# Altium schematic symbol library bethu.SchLib: 608 symbols (part 1 of 6)
Pins are listed as number, name and electrical type; pins without a type are passive.

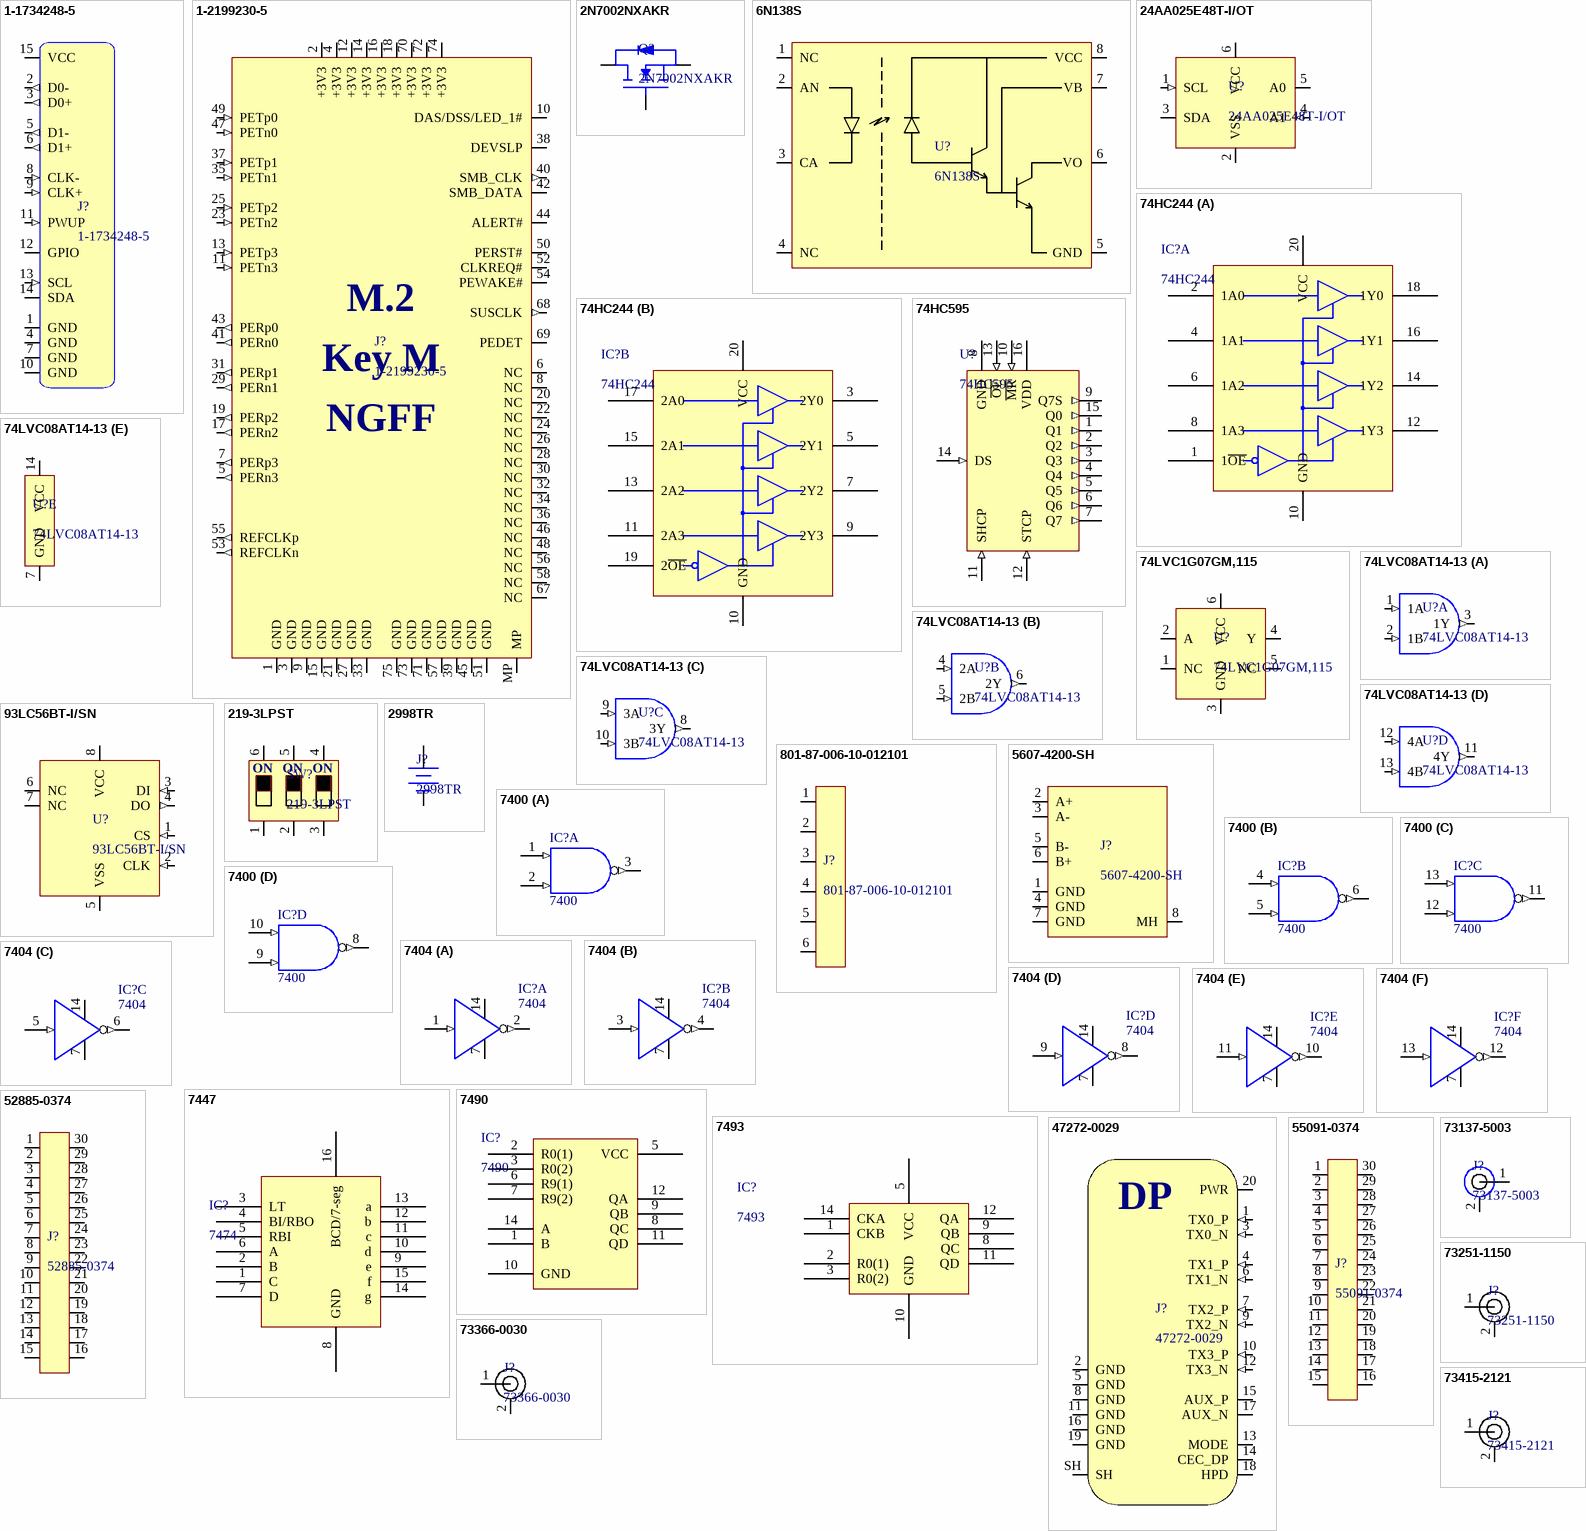
[diagram p0: symbols 1-1734248-5 to 73415-2121]

## 1-1734248-5
designator J?
FFC & FPC Connectors 15P 1.0 FPC, Zip V/T SMT; Manufacturer: TE Connectivity; Manufacturer Part Number: 1-1734248-5; Distributor Link: https://www.mouser.de/ProductDetail/TE-Connectivity/1-1734248-5?qs=sGAEpiMZZMvlX3nhDDO4AGJoiHpVI%252BrLj36UQiWnLiQ%3D; LCSC: C2922285
footprint 1-1734248-5
pins: 1 GND (power), 2 D0- (out), 3 D0+ (out), 4 GND (power), 5 D1- (out), 6 D1+ (out), 7 GND (power), 8 CLK- (in), 9 CLK+ (in), 10 GND (power), 11 PWUP (in), 12 GPIO (io), 13 SCL (in), 14 SDA (io), 15 VCC (power)

## 1-2199230-5
designator J?  (no BOM)
M.2 NGFF Key M Card Edge Connector 0.5mm Pitch 67 Position 4.2mm Height; Manufacturer: TE Connectivity; Manufacturer Part Number: 1-2199230-5; Distributor Link: https://eu.mouser.com/ProductDetail/TE-Connectivity/1-2199230-5?qs=N0TJGnUfxCD5L9UvFjPEwQ%3D%3D; LCSC: C590854
footprint 1-2199230-5
pins: 1 GND (power), 2 +3V3 (power), 3 GND (power), 4 +3V3 (power), 5 PERn3 (out), 6 NC, 7 PERp3 (out), 8 NC, 9 GND (power), 10 DAS/DSS/LED_1#, 11 PETn3 (in), 12 +3V3 (power), 13 PETp3 (in), 14 +3V3 (power), 15 GND (power), 16 +3V3 (power), 17 PERn2 (out), 18 +3V3 (power), 19 PERp2 (out), 20 NC, 21 GND (power), 22 NC, 23 PETn2 (in), 24 NC, 25 PETp2 (in), 26 NC, 27 GND (power), 28 NC, 29 PERn1 (out), 30 NC, 31 PERp1 (out), 32 NC, 33 GND (power), 34 NC, 35 PETn1 (in), 36 NC, 37 PETp1 (in), 38 DEVSLP, 39 GND (power), 40 SMB_CLK (out), 41 PERn0 (out), 42 SMB_DATA (io), 43 PERp0 (out), 44 ALERT#, 45 GND (power), 46 NC, 47 PETn0 (in), 48 NC, 49 PETp0 (in), 50 PERST#, 51 GND (power), 52 CLKREQ#, 53 REFCLKn (out), 54 PEWAKE#, 55 REFCLKp (out), 56 NC, 57 GND (power), 58 NC, 67 NC, 68 SUSCLK (out), 69 PEDET, 70 +3V3 (power), 71 GND (power), 72 +3V3 (power), 73 GND (power), 74 +3V3 (power), 75 GND (power), MP (power)
text: M.2; Key M; NGFF

## 2N7002NXAKR
designator Q?
MOSFET N-Channel Vds=60V Id=300mA with ESD Protection; Manufacturer: Nexperia; Manufacturer Part Number: 2N7002NXAKR
footprint SSM3J338R,LF-SOT23-F
pins: D, G, S

## 6N138S
designator U?
Single-Channel, High-Speed Optocoupler; Manufacturer: Lite-On; Manufacturer Part Number: 6N138S; Distributor Link: https://www.mouser.de/ProductDetail/Lite-On/6N138S?qs=PByDJ0nQNwpiJNZ8Mk8Kdw%3D%3D
footprint SMD-8
pins: 1 NC, 2 AN, 3 CA, 4 NC, 5 GND (power), 6 VO (oc), 7 VB (power), 8 VCC (power)

## 24AA025E48T-I/OT
designator U?
2-Kbit I2C Serial EEPROMs with EUI-48™ Node Identity; Manufacturer: Microchip; Manufacturer Part Number: 24AA025E48T-I/OT; Distributor Link: https://www.mouser.de/ProductDetail/Microchip-Technology/24AA025E48T-I-OT?qs=GCDK0xhvQh4RRiPFFnzHdA%3D%3D; LCSC: C129895
footprint SOT-23-6
pins: 1 SCL (in), 2 VSS (power), 3 SDA (io), 4 A1 (in), 5 A0 (power), 6 VCC (power)

## 74HC244
designator IC?
footprint TSSOP 20PIN (TSOP, 20-Leads, Body 6.6x4.5mm (max), Pitch 0.65mm, IPC High Density)
part A pins: 1 1~{OE}, 2 1A0, 4 1A1, 6 1A2, 8 1A3, 10 GND, 12 1Y3, 14 1Y2, 16 1Y1, 18 1Y0, 20 VCC
part B pins: 3 2Y0, 5 2Y1, 7 2Y2, 9 2Y3, 10 GND, 11 2A3, 13 2A2, 15 2A1, 17 2A0, 19 2~{OE}, 20 VCC

## 74HC595
designator U?
footprint SOIC 16PIN
pins: 1 Q1 (out), 2 Q2 (out), 3 Q3 (out), 4 Q4 (out), 5 Q5 (out), 6 Q6 (out), 7 Q7 (out), 8 GND (power), 9 Q7S (out), 10 ~{MR} (in), 11 SHCP (in), 12 STCP (in), 13 ~{OE} (in), 14 DS (in), 15 Q0 (out), 16 VDD (power)

## 74LVC1G07GM,115
designator U?
Open-Drain Buffer 3.3V/5V Non-Inverting XSON-6; Manufacturer: Nexperia; Manufacturer Part Number: 74LVC1G07GM,115
footprint XSON-6-SOT1202 (SON, 6-Leads, Body 0.98x1.00mm, Pitch 0.35mm, IPC Medium Density)
pins: 1 NC, 2 A, 3 GND, 4 Y, 5 NC, 6 VCC

## 74LVC08AT14-13
designator U?
QUADRUPLE 2-INPUT CMOS AND GATES; Manufacturer: Diodes Incorporated; Manufacturer Part Number: 74LVC08AT14-13; Distributor Link: https://eu.mouser.com/ProductDetail/Diodes-Incorporated/74LVC08AT14-13?qs=ZtY9WdtwX5535dJGuTpaIA%3D%3D
footprint TSSOP-14
part A pins: 1 1A (in), 2 1B (in), 3 1Y (out)
part B pins: 4 2A (in), 5 2B (in), 6 2Y (out)
part C pins: 8 3Y (out), 9 3A (in), 10 3B (in)
part D pins: 11 4Y (out), 12 4A (in), 13 4B (in)
part E pins: 7 GND (power), 14 VCC (power)

## 93LC56BT-I/SN
designator U?
2K Microwire Compatible Serial EEPROM; Manufacturer: Microchip; Manufacturer Part Number: 93LC56BT-I/SN; Distributor Link: https://www.mouser.de/ProductDetail/Microchip-Technology/93LC56BT-I-SN?qs=lQv0JY93vreW%252BBssv4v8RA%3D%3D; LCSC: C6164
footprint SOIC-8 (SOIC, 8-Leads, Body 4.91x3.90mm, Pitch 1.27mm, IPC Medium Density)
pins: 1 CS (in), 2 CLK (in), 3 DI (in), 4 DO (out), 5 VSS (power), 6 NC, 7 NC, 8 VCC (power)

## 219-3LPST
designator SW?
DIP Switches SPST 3x; Manufacturer: CTS; Manufacturer Part Number: 219-3LPST
footprint 219-3LPST
pins: 1, 2, 3, 4, 5, 6
text: ON

## 801-87-006-10-012101
designator J?
Pin Socket 6 Position 2.54mm Pitch; Manufacturer: preci-dip; Manufacturer Part Number: 801-87-006-10-012101
footprint 801-87-006-10-012101
pins: 1, 2, 3, 4, 5, 6

## 2998TR
designator J?
Coin Cell Battery Holder 6.8mm; Manufacturer: Keystone Electronics; Manufacturer Part Number: 2998TR
footprint 2998TR (6.8mm Coin Cell Holder SMD)
pins: A, K

## 5607-4200-SH
designator J?
SATA Connector 7-Position 1.27mm Pitch Male Right Angle SMD; Manufacturer: 3M; Manufacturer Part Number: 5607-4200-SH
footprint 5607-4200-SH
pins: 1 GND, 2 A+, 3 A-, 4 GND, 5 B-, 6 B+, 7 GND, 8 MH

## 7400
designator IC?
Value: DIP14/W0.3; Value: 7400; Copyright by: VanDungEvn@Gmail.com
footprint SOIC 14PIN (SOIC, 14-Leads, Body 8.8x4.0mm (max), Pitch 1.27mm, IPC Medium Density)
pins on every part: 7 GND (power) hidden to GND, 14 VCC (power) hidden to VCC
part A pins: 1 A (in), 2 B (in), 3 ~{O} (out)
part B pins: 4 A (in), 5 B (in), 6 ~{O} (out)
part C pins: 11 ~{O} (out), 12 B (in), 13 A (in)
part D pins: 8 ~{O} (out), 9 B (in), 10 A (in)

## 7404
designator IC?
Text Field1: 30; Text Field2: 40
footprint SOIC 14PIN (SOIC, 14-Leads, Body 8.8x4.0mm (max), Pitch 1.27mm, IPC Medium Density)
pins on every part: 7 GND (power), 14 VCC (power)
part A pins: 1 A (in), 2 Y (out)
part B pins: 3 A (in), 4 Y (out)
part C pins: 5 A (in), 6 Y (out)
part D pins: 8 Y (out), 9 A (in)
part E pins: 10 Y (out), 11 A (in)
part F pins: 12 Y (out), 13 A (in)

## 7447
designator IC?, comment 7474
footprint DIP16 (16 PIN, W 300mil, Pin to pin 100mil)
pins: 1 C, 2 B, 3 LT, 4 BI/RBO, 5 RBI, 6 A, 7 D, 8 GND, 9 e, 10 d, 11 c, 12 b, 13 a, 14 g, 15 f, 16 BCD/7-seg

## 7490
designator IC?
footprint DIP14 (W.300/L.900)
pins: 1 B, 2 R0(1), 3 R0(2), 5 VCC, 6 R9(1), 7 R9(2), 8 QC, 9 QB, 10 GND, 11 QD, 12 QA, 14 A

## 7493
designator IC?
footprint DIP14 (W.300/L.900)
pins: 1 CKB, 2 R0(1), 3 R0(2), 5 VCC, 8 QC, 9 QB, 10 GND, 11 QD, 12 QA, 14 CKA

## 47272-0029
designator J?
DisplayPort Male Receptacle, Right-Angle, Surface Mount, 0.76µm Gold (Au) Plating, 20 Circuits, 0.50mm Pitch, without Cover, Lead-Free; Manufacturer: Molex; Manufacturer Part Number: 47272-0029; Distributor Link: https://eu.mouser.com/ProductDetail/Molex/47272-0029?qs=R8Vl3J6srxyrbHtT7SkUeQ%3D%3D
footprint 47272-0029
pins: 1 TX0_P (in), 2 GND (power), 3 TX0_N (in), 4 TX1_P (in), 5 GND (power), 6 TX1_N (in), 7 TX2_P (in), 8 GND (power), 9 TX2_N (in), 10 TX3_P (in), 11 GND (power), 12 TX3_N (in), 13 MODE, 14 CEC_DP, 15 AUX_P (io), 16 GND (power), 17 AUX_N (io), 18 HPD, 19 GND (power), 20 PWR (power), SH
text: DP

## 52885-0374
designator J?
SlimStack Board-to-Board Connector, 0.635mm Pitch, 0.635 Series, Receptacle, 6.00 to 10.00mm Mated Height, 6.40mm Mated Width, 30 Circuits; Manufacturer: Molex; Manufacturer Part Number: 52885-0374
footprint 52885-0374
pins: 1, 2, 3, 4, 5, 6, 7, 8, 9, 10, 11, 12, 13, 14, 15, 16, 17, 18, 19, 20, 21, 22, 23, 24, 25, 26, 27, 28, 29, 30

## 55091-0374
designator J?
SlimStack Board-to-Board Connector, 0.635mm Pitch, 0.635 Series, Plug, 6.00 or 12.00mm Mated Height, 6.40mm Mated Width, 30 Circuits; Manufacturer: Molex; Manufacturer Part Number: 55091-0374
footprint 55091-0374
pins: 1, 2, 3, 4, 5, 6, 7, 8, 9, 10, 11, 12, 13, 14, 15, 16, 17, 18, 19, 20, 21, 22, 23, 24, 25, 26, 27, 28, 29, 30

## 73137-5003
designator J?
BNC 50 Ohm, Right-Angle PCB Bulkhead Jack Receptacle, Panel Isolated, Black PBT Housing, Housing Height 13.20mm; Manufacturer: Molex; Manufacturer Part Number: 73137-5003
footprint 73137-5003
pins: 1, 2

## 73251-1150
designator J?
RF Connector 50 Ohms, SMA Jack Receptacle, Edge Mount, .25µm Gold (Au) Plating; Manufacturer: Molex; Manufacturer Part Number: 73251-1150
footprint 73251-1150
pins: 1, 2

## 73366-0030
designator J?
50 Ohms, MCX PCB Jack Receptacle, Right-Angle, 80; Manufacturer: Molex; Manufacturer Part Number: 73366-0030
footprint 73366-0030
pins: 1, 2

## 73415-2121
designator J?
RF Connector 50 Ohms, MMCX Vertical Plug, PCB, Plating Per Commercial Requirements, Bulk; Manufacturer: Molex; Manufacturer Part Number: 73415-2121
footprint 73415-2121
pins: 1, 2

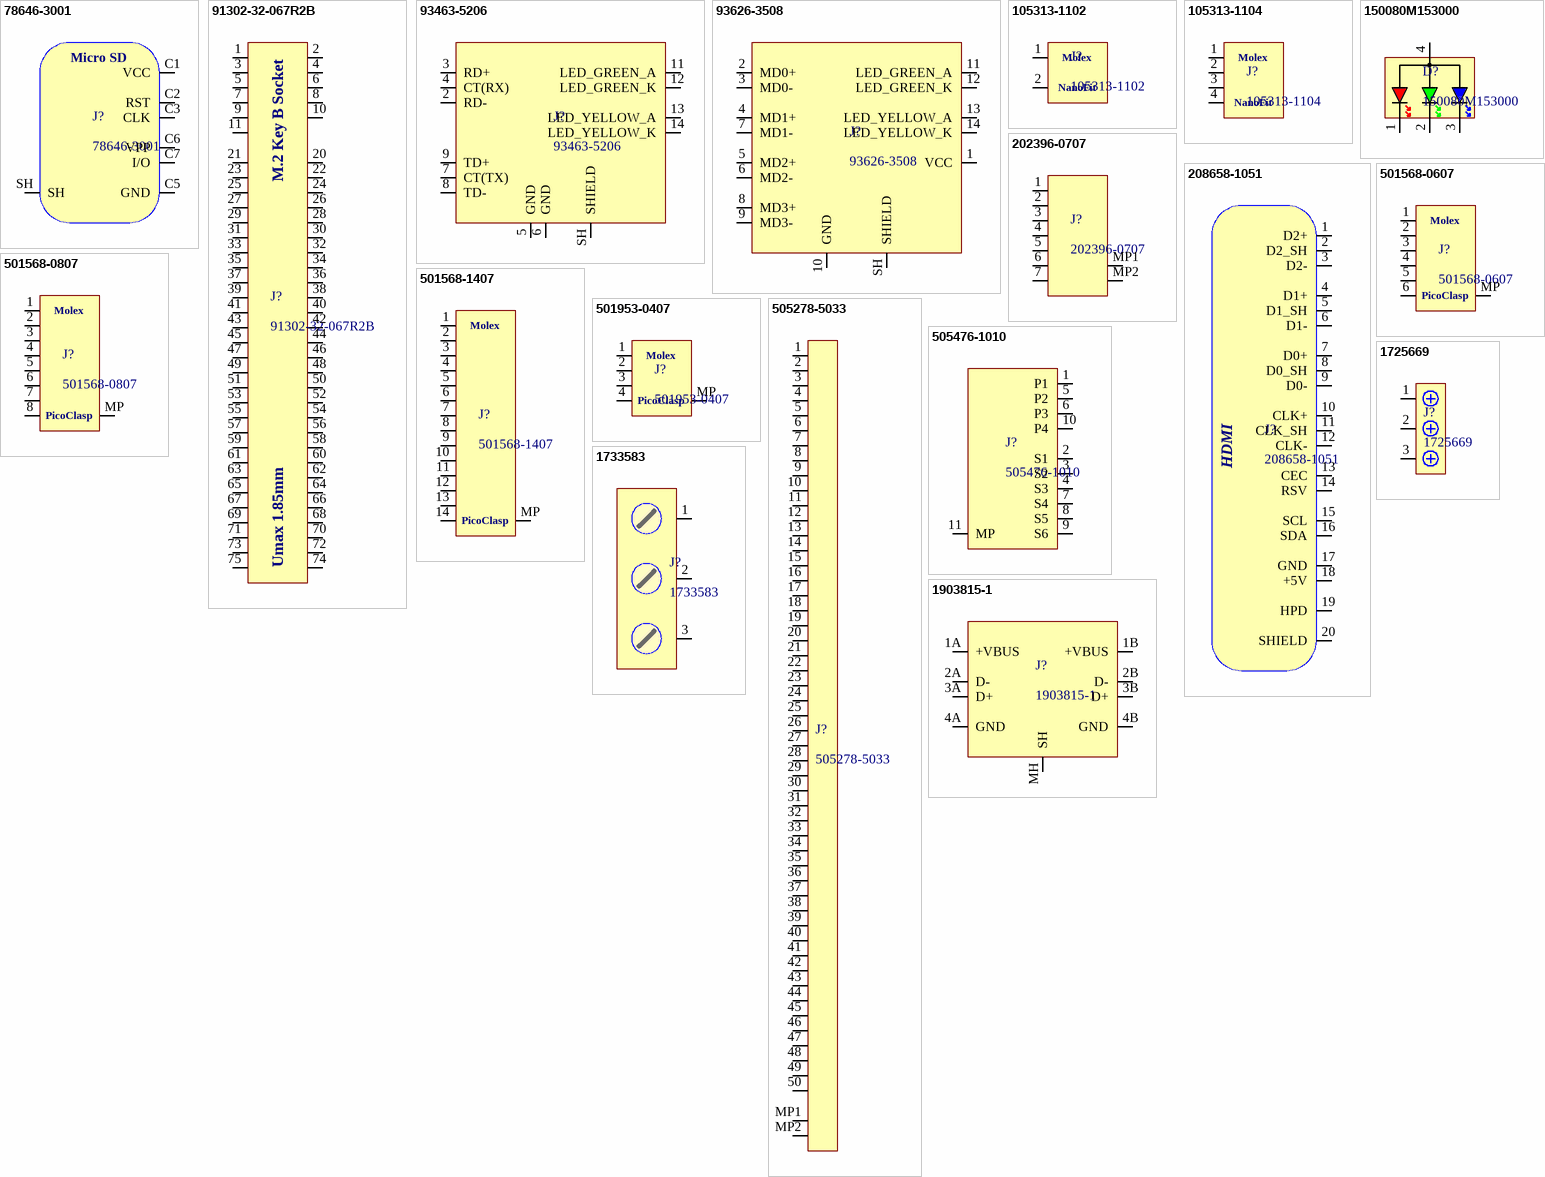
[diagram p1: symbols 78646-3001 to 1903815-1]

## 78646-3001
designator J?
micro-SIM Card Socket without Detect Switch, 1.45mm Height, Push-Pull Eject, Surface Mount, 6 Circuits, Low-Halogen, Lead-Free; Manufacturer: Molex; Manufacturer Part Number: 78646-3001
footprint 78646-3001
pins: C1 VCC, C2 RST, C3 CLK, C5 GND, C6 VPP, C7 I/O, SH
text: Micro SD

## 91302-32-067R2B
designator J?
M.2 Key B Card Edge Connector 67 Position 0.5mm Pitch 1.85mm Card Height; Manufacturer: Umax; Manufacturer Part Number: 91302-32-067R2B; Distributor Link: https://www.lcsc.com/product-detail/Card-Edge-Connectors_UMAX-91302-32-067R2B_C1509731.html; LCSC: C1509731
footprint 91302-32-067R2B
pins: 1, 2, 3, 4, 5, 6, 7, 8, 9, 10, 11, 20, 21, 22, 23, 24, 25, 26, 27, 28, 29, 30, 31, 32, 33, 34, 35, 36, 37, 38, 39, 40, 41, 42, 43, 44, 45, 46, 47, 48, 49, 50, 51, 52, 53, 54, 55, 56, 57, 58, 59, 60, 61, 62, 63, 64, 65, 66, 67, 68, 69, 70, 71, 72, 73, 74, 75
text: M.2 Key B Socket; Umax 1.85mm

## 93463-5206
designator J?
MXMag Gigabit Ethernet 8 Core Non-PoE Single-Port RJ45 Connector, 21.40mm Depth, 3.30mm Phy Pin Length, Right-Angle, Inverted Profile, with Shield Tabs, with Green-Green LEDs, Standard Temperature, with 2kV Shield Connection, Tray; Manufacturer: Molex; Manufacturer Part Number: 93463-5206
footprint 93463-5206
pins: 2 RD- (io), 3 RD+ (io), 4 CT(RX), 5 GND (power), 6 GND (power), 7 CT(TX), 8 TD- (io), 9 TD+ (io), 11 LED_GREEN_A, 12 LED_GREEN_K, 13 LED_YELLOW_A, 14 LED_YELLOW_K, SH SHIELD (power)

## 93626-3508
designator J?
MXMag Gigabit Ethernet 8 Core Non-PoE Single-Port RJ45 Connector, 21.40mm Depth, 3.30mm Phy Pin Length, Right-Angle, Standard Profile, with Shield Tabs, with Green/Yellow-Green/Yellow LEDs, Standard Temperature, with 2kV Shield Connection; Manufacturer: Molex; Manufacturer Part Number: 93626-3508
footprint 93626-3508
pins: 1 VCC, 2 MD0+, 3 MD0-, 4 MD1+, 5 MD2+, 6 MD2-, 7 MD1-, 8 MD3+, 9 MD3-, 10 GND, 11 LED_GREEN_A, 12 LED_GREEN_K, 13 LED_YELLOW_A, 14 LED_YELLOW_K, SH SHIELD

## 105313-1102
designator J?
Nano-Fit Right-Angle Header, Through Hole, 2.50mm Pitch, Single Row, 2 Circuits, Tin (Sn) Plating, Black, Glow-Wire Capable, Tray; Manufacturer: Molex; Manufacturer Part Number: 105313-1102
footprint 105313-1102
pins: 1, 2
text: NanoFit

## 105313-1104
designator J?
Nano-Fit Right-Angle Header, Through Hole, 2.50mm Pitch, Single Row, 2 Circuits, Tin (Sn) Plating, Black, Glow-Wire Capable, Tray; Manufacturer: Molex; Manufacturer Part Number: 105313-1104
footprint 105313-1104
pins: 1, 2, 3, 4
text: NanoFit

## 150080M153000
designator D?
RGB LED Common Anode SMD Diffused 0805 Top View; Manufacturer: Wurth; Manufacturer Part Number: 150080M153000; Distributor Link: https://www.mouser.de/ProductDetail/Wurth-Elektronik/150080M153000?qs=5aG0NVq1C4wI5cZ2wabu5A%3D%3D
footprint 150080M153000
pins: 1 CR, 2 CG, 3 CB, 4 AC

## 202396-0707
designator J?
1.00mm Pitch, Pico-Clasp PCB Header, Single Row, Right-Angle, Surface Mount, 0.10µm Gold Plated, Inner Positive Lock, 7 Circuits, Natural; Manufacturer: Molex; Manufacturer Part Number: 202396-0707
footprint 202396-0707
pins: 1, 2, 3, 4, 5, 6, 7, MP1, MP2

## 208658-1051
designator J?
HDMI v2.1 Receptacle, Right-Angle, Gold Flash Plating, without Mylar, without Flange, Tape and Reel, 19 Circuits; Manufacturer: Molex; Manufacturer Part Number: 208658-1051
footprint 208658-1051
pins: 1 D2+, 2 D2_SH, 3 D2-, 4 D1+, 5 D1_SH, 6 D1-, 7 D0+, 8 D0_SH, 9 D0-, 10 CLK+, 11 CLK_SH, 12 CLK-, 13 CEC, 14 RSV, 15 SCL, 16 SDA, 17 GND, 18 +5V, 19 HPD, 20 SHIELD
text: HDMI

## 501568-0607
designator J?
1.00mm Pitch, Pico-Clasp PCB Header, Single Row, Right-Angle, Surface Mount, Tin Plated, Outer Positive Lock, 6 Circuits, Natural; Manufacturer: Molex; Manufacturer Part Number: 501568-0607
footprint 501568-0607
pins: 1, 2, 3, 4, 5, 6, MP
text: PicoClasp

## 501568-0807
designator J?
1.00mm Pitch, Pico-Clasp PCB Header, Single Row, Right-Angle, Surface Mount, Tin Plated, Outer Positive Lock, 8 Circuits, Natural; Manufacturer: Molex; Manufacturer Part Number: 501568-0807
footprint 501568-0807
pins: 1, 2, 3, 4, 5, 6, 7, 8, MP
text: PicoClasp

## 501568-1407
designator J?
1.00mm Pitch, Pico-Clasp PCB Header, Single Row, Right-Angle, Surface Mount, Tin Plated, Outer Positive Lock, 14 Circuits, Natural; Manufacturer: Molex; Manufacturer Part Number: 501568-1407
footprint 501568-1407
pins: 1, 2, 3, 4, 5, 6, 7, 8, 9, 10, 11, 12, 13, 14, MP
text: PicoClasp

## 501953-0407
designator J?
1.00mm Pitch, Pico-Clasp PCB Header, Single Row, Right-Angle, Surface Mount, 1.01µm Tin Plated, Outer Positive Lock, 4 Circuits, Natural; Manufacturer: Molex; Manufacturer Part Number: 501953-0407
footprint 501953-0407
pins: 1, 2, 3, 4, MP
text: PicoClasp

## 505278-5033
designator J?
FFC Connector 50 Position 0.5mm Pitch Bottom Contact ZIF; Manufacturer: Molex; Manufacturer Part Number: 505278-5033
footprint 505278-5033
pins: 1, 2, 3, 4, 5, 6, 7, 8, 9, 10, 11, 12, 13, 14, 15, 16, 17, 18, 19, 20, 21, 22, 23, 24, 25, 26, 27, 28, 29, 30, 31, 32, 33, 34, 35, 36, 37, 38, 39, 40, 41, 42, 43, 44, 45, 46, 47, 48, 49, 50, MP1, MP2

## 505476-1010
designator J?
SlimStack Board-to-Board Plug, 0.40mm Pitch, Battery Series, 0.60mm Mated Height, 2.00mm Mated Width, 10 Circuits, 10.0A; Manufacturer: Molex; Manufacturer Part Number: 505476-1010
footprint 505476-1010
pins: 1 P1 (power), 2 S1 (io), 3 S2 (io), 4 S3 (io), 5 P2 (power), 6 P3 (power), 7 S4 (io), 8 S5 (io), 9 S6 (io), 10 P4 (power), 11 MP

## 1725669
designator J?
Screw Terminal Block 3 Positions 2.54mm; Manufacturer: Phoenix; Manufacturer Part Number: 1725669; Distributor Link: https://www.mouser.de/ProductDetail/Phoenix-Contact/1725669?qs=A%2FKWGUWTCZjmkTL0Oe91ew%3D%3D
footprint 1725669
pins: 1, 2, 3

## 1733583
designator J?
Screw Terminal 3 Position 5.08mm Pitch Phoenix; Manufacturer: Phoenix Contact; Manufacturer Part Number: 1733583
footprint 1733583
pins: 1, 2, 3

## 1903815-1
designator J?
USB Connectors, A, 2.0, Standard Profile, Female Receptacle, 2 Port, Top, Right Angle, IP20, Offset, Industrial USB IP20; Manufacturer: TE Connectivity; Manufacturer Part Number: 1903815-1
footprint 1903815-1
pins: 1A +VBUS, 1B +VBUS, 2A D-, 2B D-, 3A D+, 3B D+, 4A GND, 4B GND, MH SH

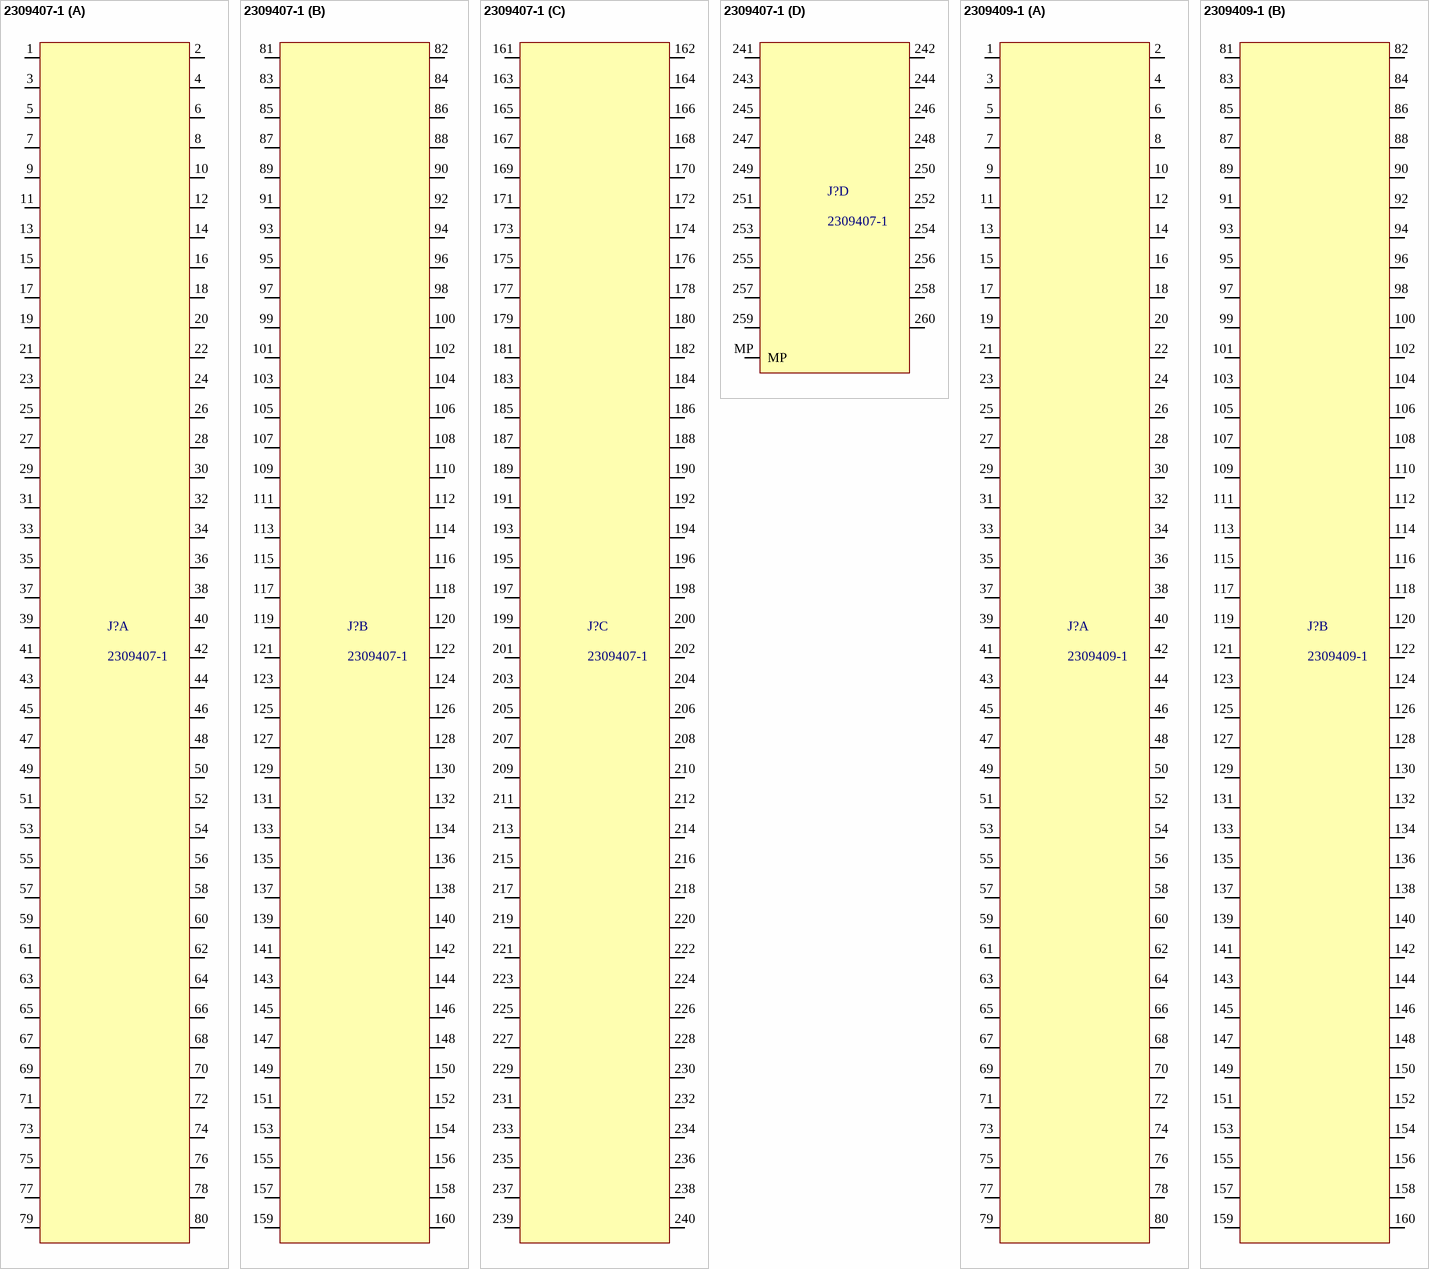
[diagram p2: symbols 2309407-1 to 2309409-1]

## 2309407-1
designator J?
SO DIMM Socket, Small Outline (SO), Stack Height .157 in [4 mm], Right Angle Module Orientation, 260 Position, DDR4 DIMM; Manufacturer: TE Connectivity; Manufacturer Part Number: 2309407-1
footprint 2309407-1
part A pins: 1, 2, 3, 4, 5, 6, 7, 8, 9, 10, 11, 12, 13, 14, 15, 16, 17, 18, 19, 20, 21, 22, 23, 24, 25, 26, 27, 28, 29, 30, 31, 32, 33, 34, 35, 36, 37, 38, 39, 40, 41, 42, 43, 44, 45, 46, 47, 48, 49, 50, 51, 52, 53, 54, 55, 56, 57, 58, 59, 60, 61, 62, 63, 64, 65, 66, 67, 68, 69, 70, 71, 72, 73, 74, 75, 76, 77, 78, 79, 80
part B pins: 81, 82, 83, 84, 85, 86, 87, 88, 89, 90, 91, 92, 93, 94, 95, 96, 97, 98, 99, 100, 101, 102, 103, 104, 105, 106, 107, 108, 109, 110, 111, 112, 113, 114, 115, 116, 117, 118, 119, 120, 121, 122, 123, 124, 125, 126, 127, 128, 129, 130, 131, 132, 133, 134, 135, 136, 137, 138, 139, 140, 141, 142, 143, 144, 145, 146, 147, 148, 149, 150, 151, 152, 153, 154, 155, 156, 157, 158, 159, 160
part C pins: 161, 162, 163, 164, 165, 166, 167, 168, 169, 170, 171, 172, 173, 174, 175, 176, 177, 178, 179, 180, 181, 182, 183, 184, 185, 186, 187, 188, 189, 190, 191, 192, 193, 194, 195, 196, 197, 198, 199, 200, 201, 202, 203, 204, 205, 206, 207, 208, 209, 210, 211, 212, 213, 214, 215, 216, 217, 218, 219, 220, 221, 222, 223, 224, 225, 226, 227, 228, 229, 230, 231, 232, 233, 234, 235, 236, 237, 238, 239, 240
part D pins: 241, 242, 243, 244, 245, 246, 247, 248, 249, 250, 251, 252, 253, 254, 255, 256, 257, 258, 259, 260, MP

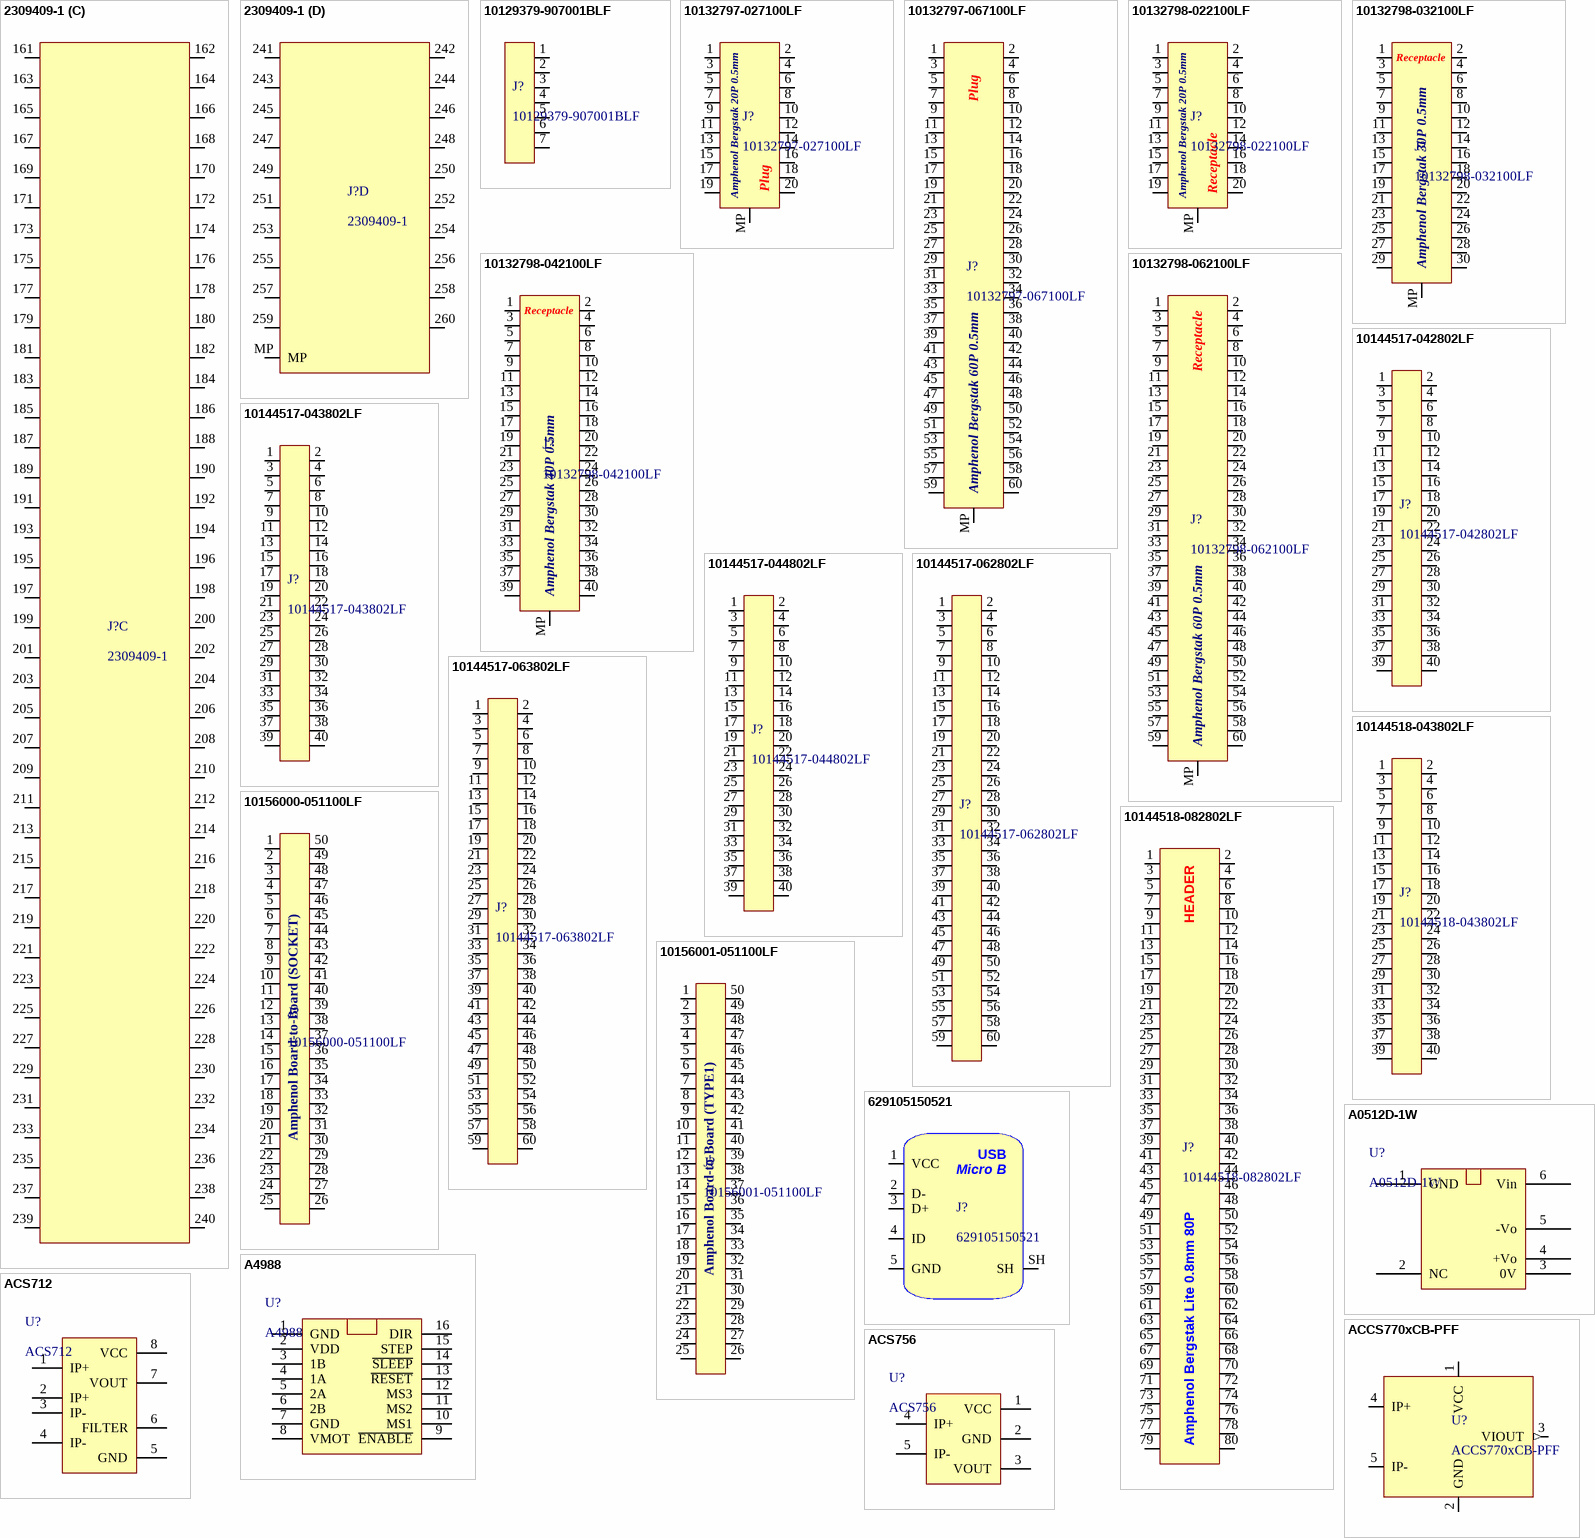
[diagram p3: symbols 2309409-1 to ACS756]

## 2309409-1
designator J?
SO DIMM Socket, Small Outline (SO), Stack Height .205 in [5.2 mm], Right Angle Module Orientation, 260 Position, DDR4 DIMM; Manufacturer: TE Connectivity; Manufacturer Part Number: 2309409-1
footprint 2309409-1
part A pins: 1, 2, 3, 4, 5, 6, 7, 8, 9, 10, 11, 12, 13, 14, 15, 16, 17, 18, 19, 20, 21, 22, 23, 24, 25, 26, 27, 28, 29, 30, 31, 32, 33, 34, 35, 36, 37, 38, 39, 40, 41, 42, 43, 44, 45, 46, 47, 48, 49, 50, 51, 52, 53, 54, 55, 56, 57, 58, 59, 60, 61, 62, 63, 64, 65, 66, 67, 68, 69, 70, 71, 72, 73, 74, 75, 76, 77, 78, 79, 80
part B pins: 81, 82, 83, 84, 85, 86, 87, 88, 89, 90, 91, 92, 93, 94, 95, 96, 97, 98, 99, 100, 101, 102, 103, 104, 105, 106, 107, 108, 109, 110, 111, 112, 113, 114, 115, 116, 117, 118, 119, 120, 121, 122, 123, 124, 125, 126, 127, 128, 129, 130, 131, 132, 133, 134, 135, 136, 137, 138, 139, 140, 141, 142, 143, 144, 145, 146, 147, 148, 149, 150, 151, 152, 153, 154, 155, 156, 157, 158, 159, 160
part C pins: 161, 162, 163, 164, 165, 166, 167, 168, 169, 170, 171, 172, 173, 174, 175, 176, 177, 178, 179, 180, 181, 182, 183, 184, 185, 186, 187, 188, 189, 190, 191, 192, 193, 194, 195, 196, 197, 198, 199, 200, 201, 202, 203, 204, 205, 206, 207, 208, 209, 210, 211, 212, 213, 214, 215, 216, 217, 218, 219, 220, 221, 222, 223, 224, 225, 226, 227, 228, 229, 230, 231, 232, 233, 234, 235, 236, 237, 238, 239, 240
part D pins: 241, 242, 243, 244, 245, 246, 247, 248, 249, 250, 251, 252, 253, 254, 255, 256, 257, 258, 259, 260, MP

## 10129379-907001BLF
designator J?
EconoStik™ 2.54mm, Board to Board Connector, Unshrouded Right Angled Header, Through Hole, Single Row, 7 Positions, 2.54 mm (0.100in) Pitch; Manufacturer: Amphenol; Manufacturer Part Number: 10129379-907001BLF
footprint 10129379-907001BLF
pins: 1, 2, 3, 4, 5, 6, 7

## 10132797-027100LF
designator J?
BergStak® 0.5mm Mezzanine Connector, Board To Board Connectors, 20 position, 5.3mm height plug connector; Manufacturer: Amphenol; Manufacturer Part Number: 10132797-027100LF
footprint 10132797-027100LF
pins: 1, 2, 3, 4, 5, 6, 7, 8, 9, 10, 11, 12, 13, 14, 15, 16, 17, 18, 19, 20, MP
text: Amphenol Bergstak 20P 0.5mm; Plug

## 10132797-067100LF
designator J?
BergStak® 0.5mm Mezzanine Connector, Board To Board Connectors, 60 position, 5.3mm height plug connector; Manufacturer: Amphenol; Manufacturer Part Number: 10132797-067100LF
footprint 10132797-067100LF
pins: 1, 2, 3, 4, 5, 6, 7, 8, 9, 10, 11, 12, 13, 14, 15, 16, 17, 18, 19, 20, 21, 22, 23, 24, 25, 26, 27, 28, 29, 30, 31, 32, 33, 34, 35, 36, 37, 38, 39, 40, 41, 42, 43, 44, 45, 46, 47, 48, 49, 50, 51, 52, 53, 54, 55, 56, 57, 58, 59, 60, MP
text: Plug; Amphenol Bergstak 60P 0.5mm

## 10132798-022100LF
designator J?
BergStak® 0.5mm Mezzanine Connector, Board To Board Connectors, 20 position, 2.7mm height receptacle connector; Manufacturer: Amphenol; Manufacturer Part Number: 10132798-022100LF
footprint 10132798-022100LF
pins: 1, 2, 3, 4, 5, 6, 7, 8, 9, 10, 11, 12, 13, 14, 15, 16, 17, 18, 19, 20, MP
text: Amphenol Bergstak 20P 0.5mm; Receptacle

## 10132798-032100LF
designator J?
BergStak® 0.5mm Mezzanine Connector, Board To Board Connectors, 30 position, 2.7mm height receptacle connector; Manufacturer: Amphenol; Manufacturer Part Number: 10132798-032100LF
footprint 10132798-032100LF
pins: 1, 2, 3, 4, 5, 6, 7, 8, 9, 10, 11, 12, 13, 14, 15, 16, 17, 18, 19, 20, 21, 22, 23, 24, 25, 26, 27, 28, 29, 30, MP
text: Receptacle; Amphenol Bergstak 30P 0.5mm

## 10132798-042100LF
designator J?
BergStak® 0.5mm Mezzanine Connector, Board To Board Connectors, 40 position, 2.7mm height receptacle connector; Manufacturer: Amphenol; Manufacturer Part Number: 10132798-042100LF
footprint 10132798-042100LF
pins: 1, 2, 3, 4, 5, 6, 7, 8, 9, 10, 11, 12, 13, 14, 15, 16, 17, 18, 19, 20, 21, 22, 23, 24, 25, 26, 27, 28, 29, 30, 31, 32, 33, 34, 35, 36, 37, 38, 39, 40, MP
text: Receptacle; Amphenol Bergstak 40P 0.5mm

## 10132798-062100LF
designator J?
BergStak® 0.5mm Mezzanine Connector, Board To Board Connectors, 60 position, 2.7mm height receptacle connector; Manufacturer: Amphenol; Manufacturer Part Number: 10132798-062100LF
footprint 10132798-062100LF
pins: 1, 2, 3, 4, 5, 6, 7, 8, 9, 10, 11, 12, 13, 14, 15, 16, 17, 18, 19, 20, 21, 22, 23, 24, 25, 26, 27, 28, 29, 30, 31, 32, 33, 34, 35, 36, 37, 38, 39, 40, 41, 42, 43, 44, 45, 46, 47, 48, 49, 50, 51, 52, 53, 54, 55, 56, 57, 58, 59, 60, MP
text: Receptacle; Amphenol Bergstak 60P 0.5mm

## 10144517-042802LF
designator J?
BergStak Lite 0.80mm Board-to-Board Connector 40 Position Dual Row Vertical Receptacle 7.7mm Stack Height; Manufacturer: Amphenol; Manufacturer Part Number: 10144517-042802LF
footprint 10144517-042802LF
pins: 1, 2, 3, 4, 5, 6, 7, 8, 9, 10, 11, 12, 13, 14, 15, 16, 17, 18, 19, 20, 21, 22, 23, 24, 25, 26, 27, 28, 29, 30, 31, 32, 33, 34, 35, 36, 37, 38, 39, 40

## 10144517-043802LF
designator J?
BergStak Lite 0.80mm Board-to-Board Connector 40 Position Dual Row Vertical Receptacle 11.7mm Stack Height; Manufacturer: Amphenol; Manufacturer Part Number: 10144517-043802LF
footprint 10144517-043802LF
pins: 1, 2, 3, 4, 5, 6, 7, 8, 9, 10, 11, 12, 13, 14, 15, 16, 17, 18, 19, 20, 21, 22, 23, 24, 25, 26, 27, 28, 29, 30, 31, 32, 33, 34, 35, 36, 37, 38, 39, 40

## 10144517-044802LF
designator J?
BergStak Lite 0.80mm Board-to-Board Connector 40 Position Dual Row Vertical Receptacle 15.7mm Stack Height; Manufacturer: Amphenol; Manufacturer Part Number: 10144517-044802LF
footprint 10144517-044802LF
pins: 1, 2, 3, 4, 5, 6, 7, 8, 9, 10, 11, 12, 13, 14, 15, 16, 17, 18, 19, 20, 21, 22, 23, 24, 25, 26, 27, 28, 29, 30, 31, 32, 33, 34, 35, 36, 37, 38, 39, 40

## 10144517-062802LF
designator J?
BergStak Lite 0.80mm, Board-to-Board Connector, 60 Positions, Dual Row, Vertical Receptacle; Manufacturer: Amphenol; Manufacturer Part Number: 10144517-062802LF
footprint 10144517-062802LF
pins: 1, 2, 3, 4, 5, 6, 7, 8, 9, 10, 11, 12, 13, 14, 15, 16, 17, 18, 19, 20, 21, 22, 23, 24, 25, 26, 27, 28, 29, 30, 31, 32, 33, 34, 35, 36, 37, 38, 39, 40, 41, 42, 43, 44, 45, 46, 47, 48, 49, 50, 51, 52, 53, 54, 55, 56, 57, 58, 59, 60

## 10144517-063802LF
designator J?
BergStak Lite 0.80mm, Board-to-Board Connector, 60 Positions, Dual Row, Vertical Receptacle; Manufacturer: Amphenol; Manufacturer Part Number: 10144517-063802LF
footprint 10144517-063802LF
pins: 1, 2, 3, 4, 5, 6, 7, 8, 9, 10, 11, 12, 13, 14, 15, 16, 17, 18, 19, 20, 21, 22, 23, 24, 25, 26, 27, 28, 29, 30, 31, 32, 33, 34, 35, 36, 37, 38, 39, 40, 41, 42, 43, 44, 45, 46, 47, 48, 49, 50, 51, 52, 53, 54, 55, 56, 57, 58, 59, 60

## 10144518-043802LF
designator J?
BergStak Lite 0.80mm Board-to-Board Connector 40 Position Dual Row Vertical Header; Manufacturer: Amphenol; Manufacturer Part Number: 10144518-043802LF
footprint 10144518-043802LF
pins: 1, 2, 3, 4, 5, 6, 7, 8, 9, 10, 11, 12, 13, 14, 15, 16, 17, 18, 19, 20, 21, 22, 23, 24, 25, 26, 27, 28, 29, 30, 31, 32, 33, 34, 35, 36, 37, 38, 39, 40

## 10144518-082802LF
designator J?
BergStak® Lite 0.80mm, Board-to-Board Connector, 80 Positions, Dual Row, Vertical Header; Manufacturer: Amphenol; Manufacturer Part Number: 10144518-082802LF
footprint 10144518-082802LF
pins: 1, 2, 3, 4, 5, 6, 7, 8, 9, 10, 11, 12, 13, 14, 15, 16, 17, 18, 19, 20, 21, 22, 23, 24, 25, 26, 27, 28, 29, 30, 31, 32, 33, 34, 35, 36, 37, 38, 39, 40, 41, 42, 43, 44, 45, 46, 47, 48, 49, 50, 51, 52, 53, 54, 55, 56, 57, 58, 59, 60, 61, 62, 63, 64, 65, 66, 67, 68, 69, 70, 71, 72, 73, 74, 75, 76, 77, 78, 79, 80
text: HEADER; Amphenol Bergstak Lite 0.8mm 80P

## 10156000-051100LF
designator J?
Board-to-Board Connector 0.5mm Pitch 50 Position 2 Row; Manufacturer: Amphenol FCI; Manufacturer Part Number: 10156000-051100LF
footprint 10156000-051100LF
pins: 1, 2, 3, 4, 5, 6, 7, 8, 9, 10, 11, 12, 13, 14, 15, 16, 17, 18, 19, 20, 21, 22, 23, 24, 25, 26, 27, 28, 29, 30, 31, 32, 33, 34, 35, 36, 37, 38, 39, 40, 41, 42, 43, 44, 45, 46, 47, 48, 49, 50
text: Amphenol Board-to-Board (SOCKET)

## 10156001-051100LF
designator J?
Board-to-Board Connector 0.5mm Pitch 50 Position 2 Row; Manufacturer: Amphenol FCI; Manufacturer Part Number: 10156001-051100LF
footprint 10156001-051100LF
pins: 1, 2, 3, 4, 5, 6, 7, 8, 9, 10, 11, 12, 13, 14, 15, 16, 17, 18, 19, 20, 21, 22, 23, 24, 25, 26, 27, 28, 29, 30, 31, 32, 33, 34, 35, 36, 37, 38, 39, 40, 41, 42, 43, 44, 45, 46, 47, 48, 49, 50
text: Amphenol Board-to-Board (TYPE1)

## 629105150521
designator J?
USB Connector Type Micro B 2.0 SMD; Manufacturer: Wurth; Manufacturer Part Number: 629105150521; Distributor Link: https://www.mouser.de/ProductDetail/Wurth-Elektronik/629105150521?qs=a9WhcLg8qCzXiH7kZP8GRQ%3D%3D
footprint 629105150521
pins: 1 VCC, 2 D-, 3 D+, 4 ID, 5 GND, SH
text: USB; Micro B

## A0512D-1W
designator U?
footprint A0512D-1W
pins: 1 GND, 2 NC, 3 0V, 4 +Vo, 5 -Vo, 6 Vin

## A4988
designator U?
footprint A4988-DRV8255 (Module Stepping Motor)
pins: 1 GND, 2 VDD, 3 1B, 4 1A, 5 2A, 6 2B, 7 GND, 8 VMOT, 9 ~{ENABLE}, 10 MS1, 11 MS2, 12 MS3, 13 ~{RESET}, 14 ~{SLEEP}, 15 STEP, 16 DIR

## ACCS770xCB-PFF
designator U?
Thermally Enhanced, Fully Integrated, Hall-Effect-Based / High-Precision Linear Current Sensor IC with 100 µΩ Current Conductor PFF Leadform; Manufacturer: Allegro MicroSystems; Manufacturer Part Number: ACS770*CB-*-PFF
footprint ACS770-PFF
pins: 1 VCC (power), 2 GND (power), 3 VIOUT (out), 4 IP+ (power), 5 IP- (power)

## ACS712
designator U?
footprint SOIC 8PIN
pins: 1 IP+, 2 IP+, 3 IP-, 4 IP-, 5 GND, 6 FILTER, 7 VOUT, 8 VCC

## ACS756
designator U?
pins: 1 VCC, 2 GND, 3 VOUT, 4 IP+, 5 IP-

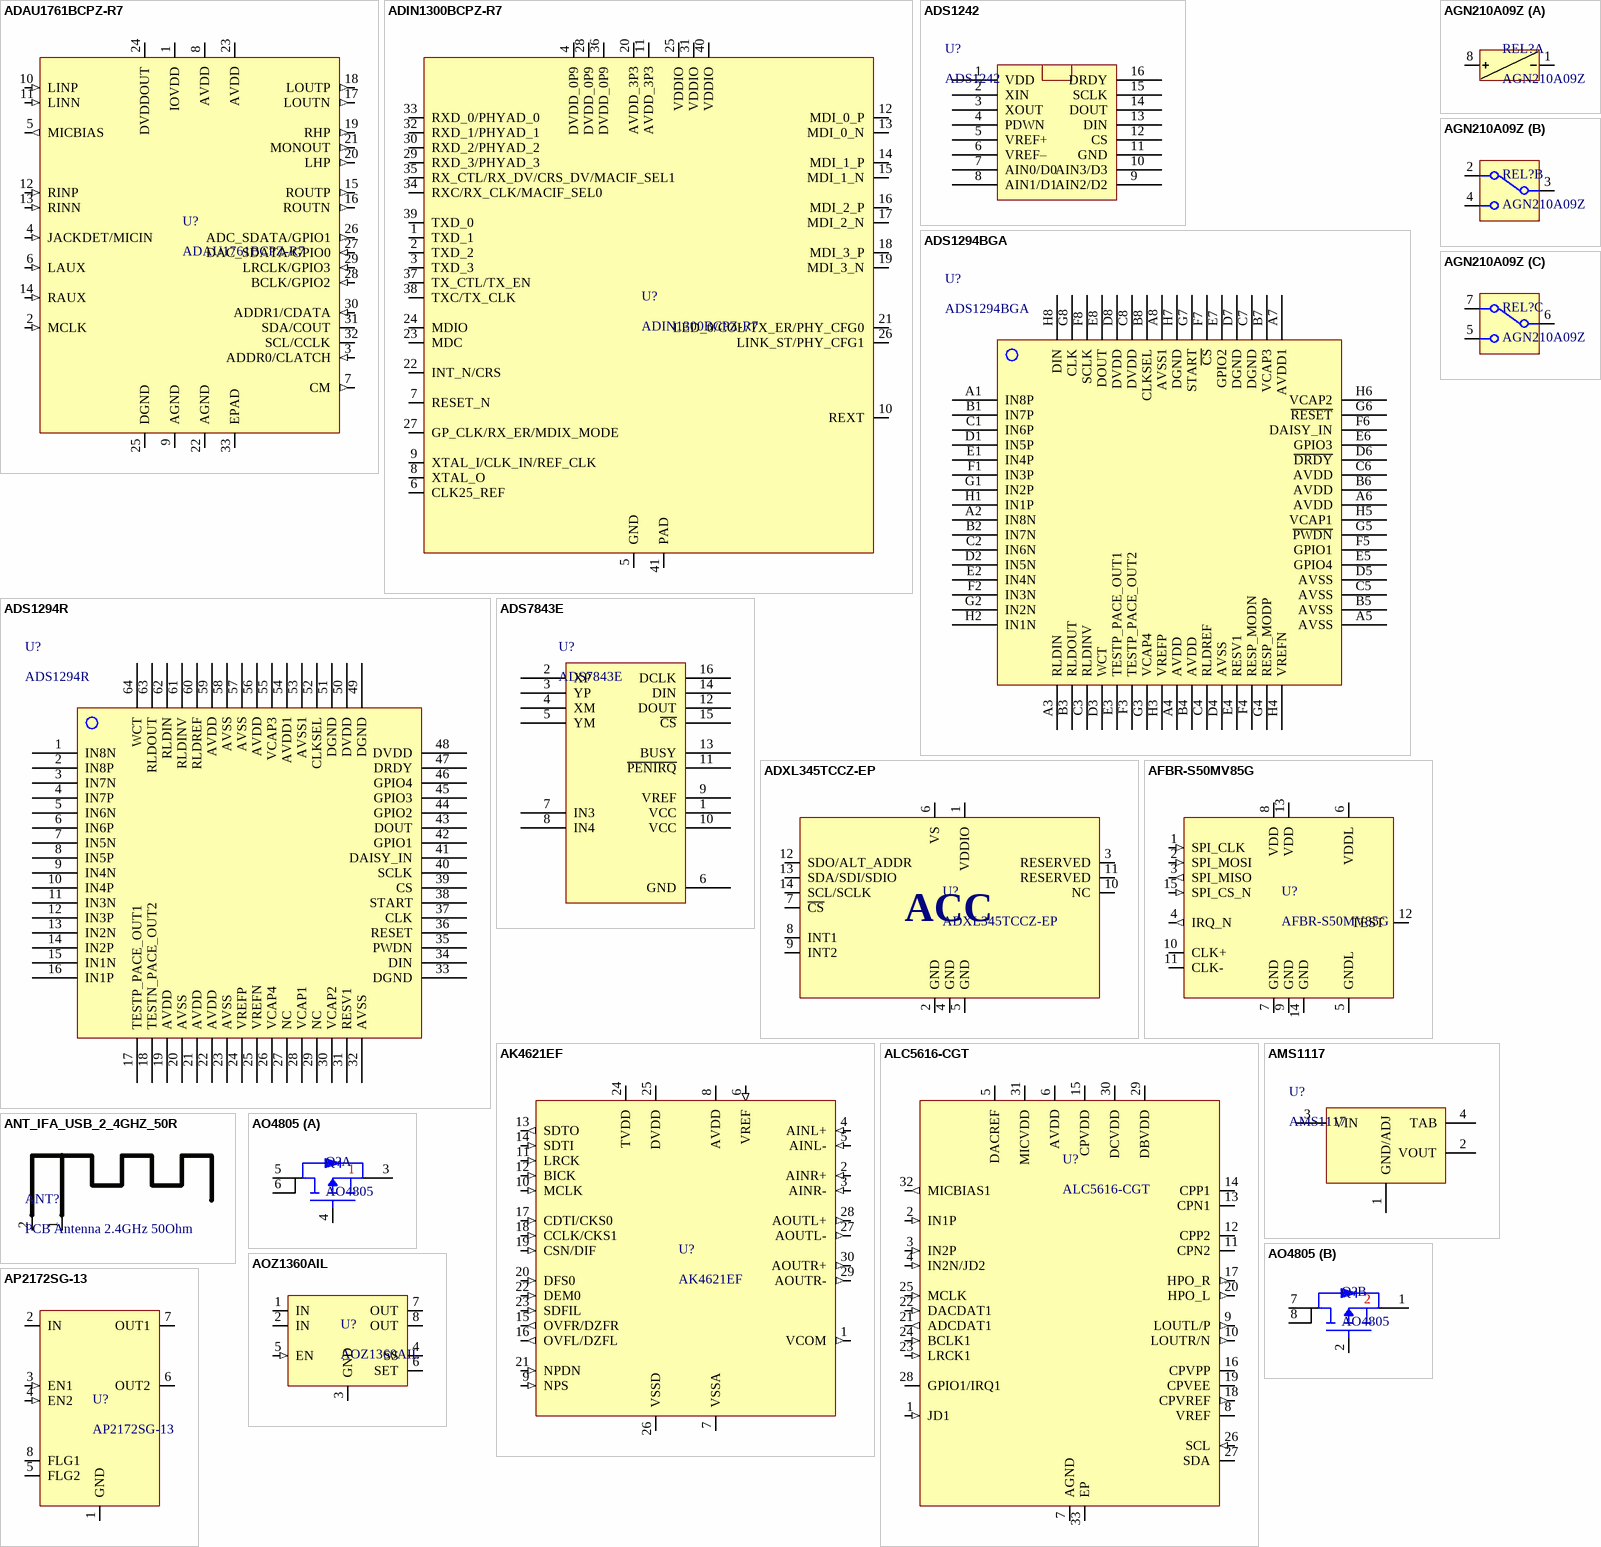
[diagram p4: symbols ADAU1761BCPZ-R7 to AP2172SG-13]

## ADAU1761BCPZ-R7
designator U?
Manufacturer: Analog Devices; Manufacturer Part Number: ADAU1761BCPZ-R7
footprint LFCSP-VQ
pins: 1 IOVDD (power), 2 MCLK (in), 3 ADDR0/CLATCH (in), 4 JACKDET/MICIN (in), 5 MICBIAS (out), 6 LAUX (in), 7 CM (out), 8 AVDD (power), 9 AGND (power), 10 LINP (in), 11 LINN (in), 12 RINP (in), 13 RINN (in), 14 RAUX (in), 15 ROUTP (out), 16 ROUTN (out), 17 LOUTN (out), 18 LOUTP (out), 19 RHP (out), 20 LHP (out), 21 MONOUT (out), 22 AGND (power), 23 AVDD (power), 24 DVDDOUT (power), 25 DGND (power), 26 ADC_SDATA/GPIO1 (out), 27 DAC_SDATA/GPIO0 (in), 28 BCLK/GPIO2 (in), 29 LRCLK/GPIO3 (in), 30 ADDR1/CDATA (in), 31 SDA/COUT (oc), 32 SCL/CCLK (oc), 33 EPAD (power)

## ADIN1300BCPZ-R7
designator U?
Gigabit Ethernet PHY MII/RGMII/RMII; Manufacturer: Analog Devices; Manufacturer Part Number: ADIN1300BCPZ-R7
footprint LFCSP-CP-40-26 (QFN, 40-Leads, Body 6,00x6,00mm, Pitch 0,50mm, Thermal Pad 2,77x2,77mm, IPC Medium Density)
pins: 1 TXD_1, 2 TXD_2, 3 TXD_3, 4 DVDD_0P9, 5 GND, 6 CLK25_REF, 7 RESET_N, 8 XTAL_O, 9 XTAL_I/CLK_IN/REF_CLK, 10 REXT, 11 AVDD_3P3, 12 MDI_0_P, 13 MDI_0_N, 14 MDI_1_P, 15 MDI_1_N, 16 MDI_2_P, 17 MDI_2_N, 18 MDI_3_P, 19 MDI_3_N, 20 AVDD_3P3, 21 LED_0/COL/TX_ER/PHY_CFG0, 22 INT_N/CRS, 23 MDC, 24 MDIO, 25 VDDIO, 26 LINK_ST/PHY_CFG1, 27 GP_CLK/RX_ER/MDIX_MODE, 28 DVDD_0P9, 29 RXD_3/PHYAD_3, 30 RXD_2/PHYAD_2, 31 VDDIO, 32 RXD_1/PHYAD_1, 33 RXD_0/PHYAD_0, 34 RXC/RX_CLK/MACIF_SEL0, 35 RX_CTL/RX_DV/CRS_DV/MACIF_SEL1, 36 DVDD_0P9, 37 TX_CTL/TX_EN, 38 TXC/TX_CLK, 39 TXD_0, 40 VDDIO, 41 PAD

## ADS1242
designator U?
pins: 1 VDD, 2 XIN, 3 XOUT, 4 PDWN, 5 VREF+, 6 VREF–, 7 AIN0/D0, 8 AIN1/D1, 9 AIN2/D2, 10 AIN3/D3, 11 GND, 12 CS, 13 DIN, 14 DOUT, 15 SCLK, 16 DRDY

## ADS1294BGA
designator U?
footprint NFBGA 64-PIN (BGA, 64-Leads, Body 8.0x8.0mm,  Pitch 0.80mm)
pins: A1 IN8P, A2 IN8N, A3 RLDIN, A4 AVDD, A5 AVSS, A6 AVDD, A7 AVDD1, A8 AVSS1, B1 IN7P, B2 IN7N, B3 RLDOUT, B4 AVDD, B5 AVSS, B6 AVDD, B7 VCAP3, B8 CLKSEL, C1 IN6P, C2 IN6N, C3 RLDINV, C4 RLDREF, C5 AVSS, C6 AVDD, C7 DGND, C8 DVDD, D1 IN5P, D2 IN5N, D3 WCT, D4 AVSS, D5 AVSS, D6 ~{DRDY}, D7 DGND, D8 DVDD, E1 IN4P, E2 IN4N, E3 TESTP_PACE_OUT1, E4 RESV1, E5 GPIO4, E6 GPIO3, E7 GPIO2, E8 DOUT, F1 IN3P, F2 IN3N, F3 TESTP_PACE_OUT2, F4 RESP_MODN, F5 GPIO1, F6 DAISY_IN, F7 ~{CS}, F8 SCLK, G1 IN2P, G2 IN2N, G3 VCAP4, G4 RESP_MODP, G5 ~{PWDN}, G6 ~{RESET}, G7 START, G8 CLK, H1 IN1P, H2 IN1N, H3 VREFP, H4 VREFN, H5 VCAP1, H6 VCAP2, H7 DGND, H8 DIN

## ADS1294R
designator U?
footprint ADS1294(S-PQFP-G64) (TSQFP, 64-Leads, Body 12.2x12.2mm (max), Pitch 0.50mm, IPC Medium Density)
pins: 1 IN8N, 2 IN8P, 3 IN7N, 4 IN7P, 5 IN6N, 6 IN6P, 7 IN5N, 8 IN5P, 9 IN4N, 10 IN4P, 11 IN3N, 12 IN3P, 13 IN2N, 14 IN2P, 15 IN1N, 16 IN1P, 17 TESTP_PACE_OUT1, 18 TESTN_PACE_OUT2, 19 AVDD, 20 AVSS, 21 AVDD, 22 AVDD, 23 AVSS, 24 VREFP, 25 VREFN, 26 VCAP4, 27 NC, 28 VCAP1, 29 NC, 30 VCAP2, 31 RESV1, 32 AVSS, 33 DGND, 34 DIN, 35 PWDN, 36 RESET, 37 CLK, 38 START, 39 CS, 40 SCLK, 41 DAISY_IN, 42 GPIO1, 43 DOUT, 44 GPIO2, 45 GPIO3, 46 GPIO4, 47 DRDY, 48 DVDD, 49 DGND, 50 DVDD, 51 DGND, 52 CLKSEL, 53 AVSS1, 54 AVDD1, 55 VCAP3, 56 AVDD, 57 AVSS, 58 AVSS, 59 AVDD, 60 RLDREF, 61 RLDINV, 62 RLDIN, 63 RLDOUT, 64 WCT

## ADS7843E
designator U?
pins: 1 VCC, 2 XP, 3 YP, 4 XM, 5 YM, 6 GND, 7 IN3, 8 IN4, 9 VREF, 10 VCC, 11 ~{PENIRQ}, 12 DOUT, 13 BUSY, 14 DIN, 15 ~{CS}, 16 DCLK

## ADXL345TCCZ-EP
designator U?
3-Axis, ±2 g/±4 g/±8 g/±16 g Digital Accelerometer Extended Performance SPI/I2C; Manufacturer: Analog Devices; Manufacturer Part Number: ADXL345TCCZ-EP
footprint LGA_CC-14-1_ADI
pins: 1 VDDIO, 2 GND, 3 RESERVED, 4 GND, 5 GND, 6 VS, 7 ~{CS}, 8 INT1, 9 INT2, 10 NC, 11 RESERVED, 12 SDO/ALT_ADDR, 13 SDA/SDI/SDIO, 14 SCL/SCLK
text: ACC

## AFBR-S50MV85G
designator U?
Time-of-Flight Sensor Module for Distance and Motion Measurement; Manufacturer: Broadcom; Manufacturer Part Number: AFBR-S50MV85G; Distributor Link: https://www.mouser.de/ProductDetail/Broadcom-Avago/AFBR-S50MV85G?qs=gZXFycFWdAMjTxpgATYDVg%3D%3D
footprint AFBR-S50MV*
pins: 1 SPI_CLK (in), 2 SPI_MOSI (in), 3 SPI_MISO (out), 4 IRQ_N (out), 5 GNDL (power), 6 VDDL (power), 7 GND (power), 8 VDD (power), 9 GND (power), 10 CLK+ (io), 11 CLK- (io), 12 TEST, 13 VDD (power), 14 GND (power), 15 SPI_CS_N (in)

## AGN210A09Z
designator REL?
Ultra-Miniature Relay DPDT SMT; Manufacturer: Panasonic; Manufacturer Part Number: AGN210A09Z; Distributor Link: https://www.mouser.de/ProductDetail/Panasonic-Industrial-Devices/AGN210A09Z?qs=YINDDaGsG3Hk3qO10oXUPw%3D%3D
footprint AGN2-0A
part A pins: 1 C-, 8 C+
part B pins: 2 NC1, 3 COM1, 4 NO1
part C pins: 5 NO2, 6 COM2, 7 NC2

## AK4621EF
designator U?
115dB 192kHz 24-bit 2 ch ADC & 2 ch DAC with Low Latency Digital Filter; Manufacturer: AKM; Manufacturer Part Number: AK4621EF
footprint VSOP-30
pins: 1 VCOM (out), 2 AINR+ (in), 3 AINR- (in), 4 AINL+ (in), 5 AINL- (in), 6 VREF (in), 7 VSSA (power), 8 AVDD (power), 9 NPS (in), 10 MCLK (in), 11 LRCK (in), 12 BICK (in), 13 SDTO (out), 14 SDTI (in), 15 OVFR/DZFR (out), 16 OVFL/DZFL (out), 17 CDTI/CKS0 (in), 18 CCLK/CKS1 (in), 19 CSN/DIF (in), 20 DFS0 (in), 21 NPDN (in), 22 DEM0 (in), 23 SDFIL (in), 24 TVDD (power), 25 DVDD (power), 26 VSSD (power), 27 AOUTL- (out), 28 AOUTL+ (out), 29 AOUTR- (out), 30 AOUTR+ (out)

## ALC5616-CGT
designator U?
Ultra-Low Power Audio CODEC; Manufacturer: Realtek; Manufacturer Part Number: ALC5616-CGT
footprint QFN-32-4x4 (QFN, 32-Leads, Body 4.00x4.00mm, Pitch 0.40mm, Thermal Pad 2.70x2.70mm, IPC Medium Density)
pins: 1 JD1 (in), 2 IN1P (in), 3 IN2P (in), 4 IN2N/JD2 (in), 5 DACREF (power), 6 AVDD (power), 7 AGND (power), 8 VREF (power), 9 LOUTL/P (out), 10 LOUTR/N (out), 11 CPN2 (power), 12 CPP2 (power), 13 CPN1 (power), 14 CPP1 (power), 15 CPVDD (power), 16 CPVPP, 17 HPO_R (out), 18 CPVREF (out), 19 CPVEE, 20 HPO_L (out), 21 ADCDAT1 (out), 22 DACDAT1 (in), 23 LRCK1 (in), 24 BCLK1 (in), 25 MCLK (in), 26 SCL (in), 27 SDA (io), 28 GPIO1/IRQ1 (io), 29 DBVDD (power), 30 DCVDD (power), 31 MICVDD (power), 32 MICBIAS1 (out), 33 EP (power)

## AMS1117
designator U?
footprint SOT223 - 3 LEAD (SOT223, 4-Leads, Body 6.7x6.7mm (max), Pitch 2.29mm, IPC Medium Density)
pins: 1 GND/ADJ, 2 VOUT, 3 VIN, 4 TAB

## ANT_IFA_USB_2_4GHZ_50R
designator ANT?, comment PCB Antenna 2.4GHz 50Ohm  (no BOM)
Inverted F 2.4GHz ISM PCB Antenna 50 Ohm; ComponentLink1Description: Datasheet; ComponentLink1URL: https://www.ti.com/lit/an/swra117d/swra117d.pdf
footprint ANT_IFA_USB_2_4GHZ_50R
pins: 1 RF, 2 GND

## AO4805
designator Q?
MOSFET P-Channel Vds=-30V Vgs=+-25V Id=-9A Rds(on|=18mOhms; Manufacturer: Alpha & Omega Semicon; Manufacturer Part Number: AO4805; LCSC: C38943
footprint SOIC-8 (SOIC, 8-Leads, Body 4.91x3.90mm, Pitch 1.27mm, IPC Medium Density)
part A pins: 3 S1, 4 G1, 5 D1, 6 D1
part B pins: 1 S2, 2 G2, 7 D2, 8 D2

## AOZ1360AIL
designator U?
28V Programmable Current-Limited Load Switch SO-8; Manufacturer: ALPHA & OMEGA SEMICON; Manufacturer Part Number: AOZ1360AIL
footprint SO-8L (SOIC, 8-Leads, Body 4.90x3.90mm, Pitch 1.27mm, IPC Medium Density)
pins: 1 IN (power), 2 IN (power), 3 GND (power), 4 SS, 5 EN (in), 6 SET (power), 7 OUT (power), 8 OUT (power)

## AP2172SG-13
designator U?
1A DUAL CHANNEL CURRENT-LIMITED POWER SWITCH Enable Active High; Manufacturer: Diodes Incorporated; Manufacturer Part Number: AP2172SG-13
footprint SO-8L (SOIC, 8-Leads, Body 4.90x3.90mm, Pitch 1.27mm, IPC Medium Density)
pins: 1 GND (power), 2 IN (power), 3 EN1 (in), 4 EN2 (in), 5 FLG2 (oc), 6 OUT2 (power), 7 OUT1 (power), 8 FLG1 (oc)

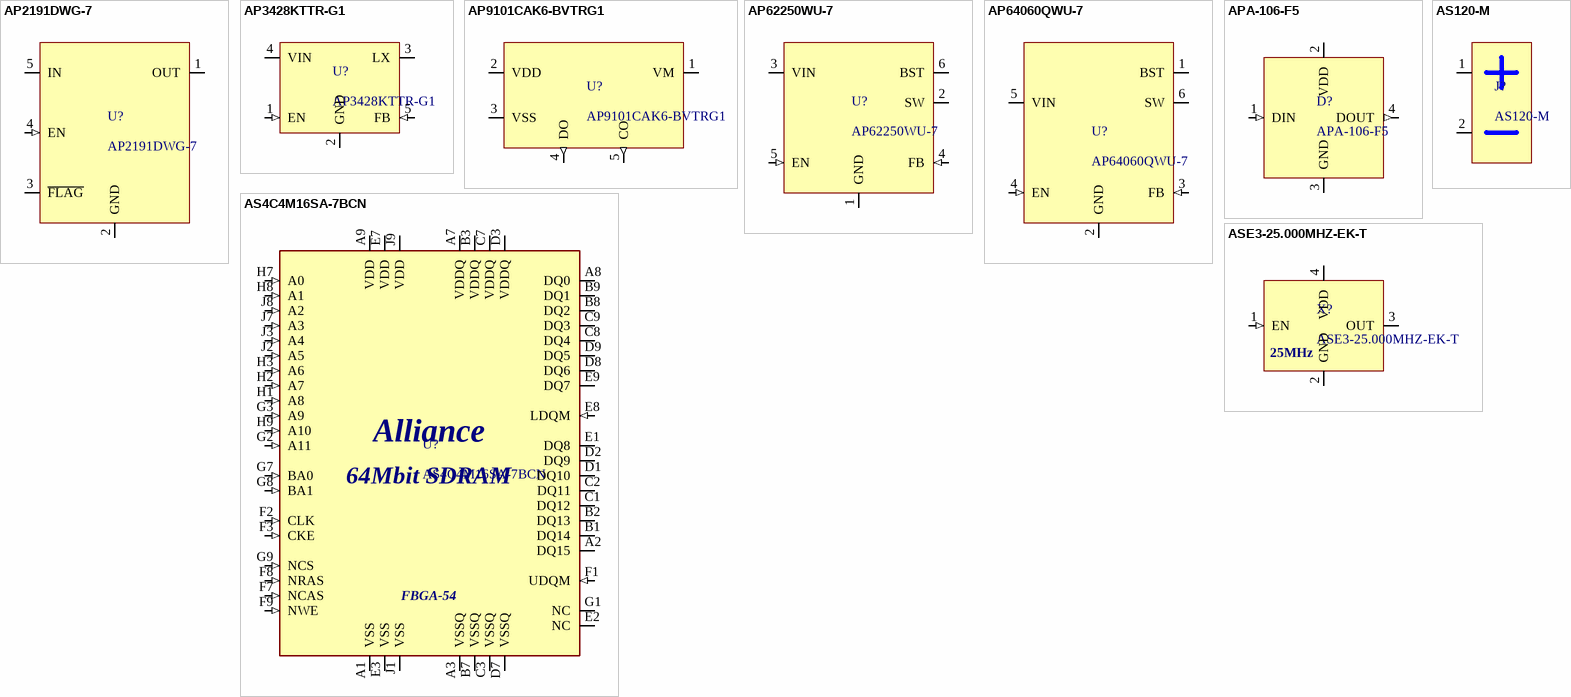
[diagram p5: symbols AP2191DWG-7 to ASE3-25.000MHZ-EK-T]

## AP2191DWG-7
designator U?
1.5A SINGLE CHANNEL CURRENT-LIMITED POWER SWITCH WITH OUTPUT DISCHARGE (ENABLE ACTIVE HIGH); Manufacturer: Diodes Incorporated; Manufacturer Part Number: AP2191DWG-7; Distributor Link: https://www.mouser.de/ProductDetail/Diodes-Incorporated/AP2191DWG-7?qs=abZ1nkZpTuNuhhoAfnXVRw%3D%3D
footprint SOT-23-5 (SOT23, 5-Leads, Body 2,90x2,80mm, Pitch 0,95mm, IPC Medium Density)
pins: 1 OUT (power), 2 GND (power), 3 ~{FLAG} (oc), 4 EN (in), 5 IN (power)

## AP3428KTTR-G1
designator U?
1.5MHZ, 1A STEP-DOWN DC-DC BUCK CONVERTER; Manufacturer: Diodes Incorporated; Manufacturer Part Number: AP3428KTTR-G1
footprint TSOT25 (SOT23, 5-Leads, Body 2.90x2.80mm, Pitch 0.95mm, IPC Medium Density)
pins: 1 EN (in), 2 GND (power), 3 LX (power), 4 VIN (power), 5 FB (in)

## AP9101CAK6-BVTRG1
designator U?
1-Cell Li-On Battery Charger and Protection IC; Manufacturer: Diodes Incorporated; Manufacturer Part Number: AP9101CAK6-BVTRG1; Distributor Link: https://www.mouser.de/ProductDetail/Diodes-Incorporated/AP9101CAK6-BVTRG1?qs=lQAVKuKFhkK%2FBM4lfGfubA%3D%3D
footprint SOT-23-5 (SOT23, 5-Leads, Body 2,90x2,80mm, Pitch 0,95mm, IPC Medium Density)
pins: 1 VM (power), 2 VDD (power), 3 VSS (power), 4 DO (out), 5 CO (out)

## AP62250WU-7
designator U?
4.2V TO 18V INPUT, 2.5A LOW IQ SYNCHRONOUS BUCK CONVERTER; Manufacturer: Diodes Incorporated; Manufacturer Part Number: AP62250WU-7; Distributor Link: https://www.mouser.de/ProductDetail/Diodes-Incorporated/AP62250WU-7?qs=7MVldsJ5Uax1PUc8sdeimQ%3D%3D
footprint TSOT-26-6 (TSOP, 6-Leads, Body 2.90x1.60mm, Pitch 0.95mm, IPC Medium Density)
pins: 1 GND (power), 2 SW (power), 3 VIN (power), 4 FB (in), 5 EN (in), 6 BST (power)

## AP64060QWU-7
designator U?
4.5V TO 40V INPUT, 600mA SYNCHRONOUS BUCK WITH ENHANCED EMI REDUCTION; Manufacturer: Diodes Incorporated; Manufacturer Part Number: AP64060QWU-7; Distributor Link: https://eu.mouser.com/ProductDetail/Diodes-Incorporated/AP64060QWU-7?qs=Li%252BoUPsLEnvtPycFvZmEcQ%3D%3D
footprint TSOT-26-6 (TSOP, 6-Leads, Body 2.90x1.60mm, Pitch 0.95mm, IPC Medium Density)
pins: 1 BST (power), 2 GND (power), 3 FB (in), 4 EN (in), 5 VIN (power), 6 SW (power)

## APA-106-F5
designator D?
Addressable RGB LED 5MM THT; Manufacturer: iPixel; Manufacturer Part Number: APA-106-F5; Datasheet: https://www.mouser.de/datasheet/2/813/COM_12877-2489746.pdf
footprint LED_RGB_5MM_THT
pins: 1 DIN (in), 2 VDD (power), 3 GND (power), 4 DOUT (out)

## AS4C4M16SA-7BCN
designator U?
64M (4M x 16 bit) Synchronous DRAM (SDRAM) FBGA-54; Manufacturer: Alliance Memory; Manufacturer Part Number: AS4C4M16SA-7BCN
footprint BGA54C80P9X9_800X800X120 (BGA, 54-Leads, Body 8.00x8.00mmx1.20mm, Pitch 0.80mm)
pins: A1 VSS (power), A2 DQ15 (io), A3 VSSQ (power), A7 VDDQ (power), A8 DQ0 (io), A9 VDD (power), B1 DQ14 (io), B2 DQ13 (io), B3 VDDQ (power), B7 VSSQ (power), B8 DQ2 (io), B9 DQ1 (io), C1 DQ12 (io), C2 DQ11 (io), C3 VSSQ (power), C7 VDDQ (power), C8 DQ4 (io), C9 DQ3 (io), D1 DQ10 (io), D2 DQ9 (io), D3 VDDQ (power), D7 VSSQ (power), D8 DQ6 (io), D9 DQ5 (io), E1 DQ8 (io), E2 NC, E3 VSS (power), E7 VDD (power), E8 LDQM (in), E9 DQ7 (io), F1 UDQM (in), F2 CLK (in), F3 CKE (in), F7 NCAS (in), F8 NRAS (in), F9 NWE (in), G1 NC, G2 A11 (in), G3 A9 (in), G7 BA0 (in), G8 BA1 (in), G9 NCS (in), H1 A8 (in), H2 A7 (in), H3 A6 (in), H7 A0 (in), H8 A1 (in), H9 A10 (in), J1 VSS (power), J2 A5 (in), J3 A4 (in), J7 A3 (in), J8 A2 (in), J9 VDD (power)
text: Alliance; 64Mbit SDRAM; FBGA-54

## AS120-M
designator J?
AS120 male 2-pin AMASS; Manufacturer: AMASS; Manufacturer Part Number: AS120-M
footprint AS120-M
pins: 1 V+ (power), 2 V- (power)

## ASE3-25.000MHZ-EK-T
designator X?
Standard Clock Oscillators 25 MHZ 1.8V 15PF 4-PIN 3.2mm x 2.5mm; Manufacturer: ABRACON; Manufacturer Part Number: ASE3-25.000MHZ-EK-T
footprint XTAL_3225
pins: 1 EN (in), 2 GND (power), 3 OUT, 4 VDD (power)
text: 25MHz

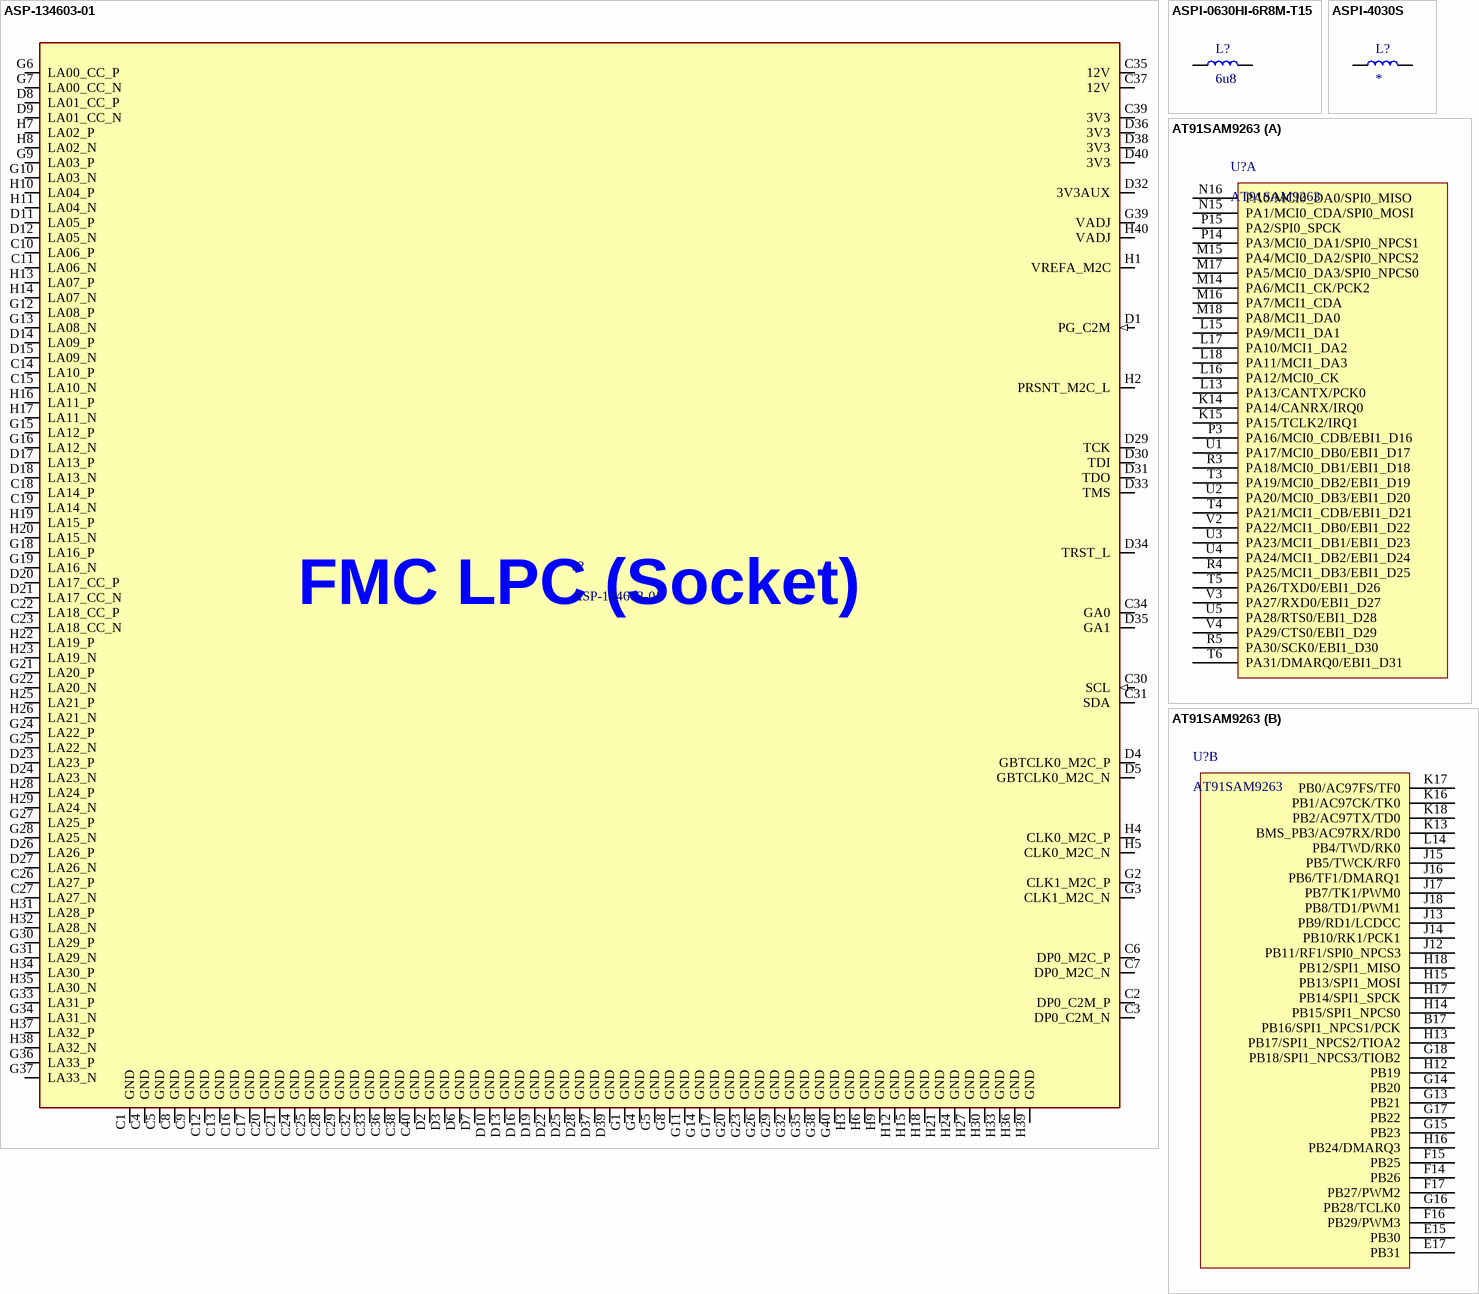
[diagram p6: symbols ASP-134603-01 to AT91SAM9263]

## ASP-134603-01
designator J?
VITA 57.1 FMC Connector LPC; Manufacturer: Samtec; Manufacturer Part Number: ASP-134603-01; Distributor Link: https://www.mouser.de/ProductDetail/Samtec/ASP-134603-01?qs=92ilVni64gy4PAaa88apew%3D%3D
footprint ASP-134603-01
pins: C1 GND (power), C2 DP0_C2M_P (io), C3 DP0_C2M_N (io), C4 GND (power), C5 GND (power), C6 DP0_M2C_P (io), C7 DP0_M2C_N (io), C8 GND (power), C9 GND (power), C10 LA06_P (io), C11 LA06_N (io), C12 GND (power), C13 GND (power), C14 LA10_P (io), C15 LA10_N (io), C16 GND (power), C17 GND (power), C18 LA14_P (io), C19 LA14_N (io), C20 GND (power), C21 GND (power), C22 LA18_CC_P (io), C23 LA18_CC_N (io), C24 GND (power), C25 GND (power), C26 LA27_P (io), C27 LA27_N (io), C28 GND (power), C29 GND (power), C30 SCL (in), C31 SDA (io), C32 GND (power), C33 GND (power), C34 GA0 (io), C35 12V (power), C36 GND, C37 12V (power), C38 GND, C39 3V3 (power), C40 GND, D1 PG_C2M (in), D2 GND (power), D3 GND (power), D4 GBTCLK0_M2C_P (io), D5 GBTCLK0_M2C_N (io), D6 GND (power), D7 GND (power), D8 LA01_CC_P (io), D9 LA01_CC_N (io), D10 GND (power), D11 LA05_P (io), D12 LA05_N (io), D13 GND (power), D14 LA09_P (io), D15 LA09_N (io), D16 GND (power), D17 LA13_P (io), D18 LA13_N (io), D19 GND (power), D20 LA17_CC_P (io), D21 LA17_CC_N (io), D22 GND (power), D23 LA23_P (io), D24 LA23_N (io), D25 GND (power), D26 LA26_P (io), D27 LA26_N (io), D28 GND (power), D29 TCK (io), D30 TDI (io), D31 TDO (io), D32 3V3AUX (power), D33 TMS (io), D34 TRST_L (io), D35 GA1 (io), D36 3V3 (power), D37 GND (power), D38 3V3 (power), D39 GND (power), D40 3V3 (power), G1 GND (power), G2 CLK1_M2C_P (io), G3 CLK1_M2C_N (io), G4 GND (power), G5 GND (power), G6 LA00_CC_P (io), G7 LA00_CC_N (io), G8 GND (power), G9 LA03_P (io), G10 LA03_N (io), G11 GND (power), G12 LA08_P (io), G13 LA08_N (io), G14 GND (power), G15 LA12_P (io), G16 LA12_N (io), G17 GND (power), G18 LA16_P (io), G19 LA16_N (io), G20 GND (power), G21 LA20_P (io), G22 LA20_N (io), G23 GND (power), G24 LA22_P (io), G25 LA22_N (io), G26 GND (power), G27 LA25_P (io), G28 LA25_N (io), G29 GND (power), G30 LA29_P (io), G31 LA29_N (io), G32 GND (power), G33 LA31_P (io), G34 LA31_N (io), G35 GND (power), G36 LA33_P (io), G37 LA33_N (io), G38 GND (power), G39 VADJ (power), G40 GND (power), H1 VREFA_M2C (power), H2 PRSNT_M2C_L (io), H3 GND (power), H4 CLK0_M2C_P (io), H5 CLK0_M2C_N (io), H6 GND (power), H7 LA02_P (io), H8 LA02_N (io), H9 GND (power), H10 LA04_P (io), H11 LA04_N (io), H12 GND (power), H13 LA07_P (io), H14 LA07_N (io), H15 GND (power), H16 LA11_P (io), H17 LA11_N (io), H18 GND (power), H19 LA15_P (io), H20 LA15_N (io), H21 GND (power), H22 LA19_P (io), H23 LA19_N (io), H24 GND (power), H25 LA21_P (io), H26 LA21_N (io), H27 GND (power), H28 LA24_P (io), H29 LA24_N (io), H30 GND (power), H31 LA28_P (io), H32 LA28_N (io), H33 GND (power), H34 LA30_P (io), H35 LA30_N (io), H36 GND (power), H37 LA32_P (io), H38 LA32_N (io), H39 GND (power), H40 VADJ (power)
text: FMC LPC (Socket)

## ASPI-0630HI-6R8M-T15
designator L?, comment 6u8
Inductor SMD 6.8uH 20% 8A Shielded; Manufacturer: ABRACON; Manufacturer Part Number: ASPI-0630HI-6R8M-T15
footprint ASPI-0630HI-6R8M-T15
pins: 1, 2

## ASPI-4030S
designator L?
Power Inductor SMD ASPI-4030S Series; Manufacturer: ABRACON; Manufacturer Part Number: ASPI-4030S*; Distirbutor Link: *
footprint ASPI-4030S
pins: 1, 2

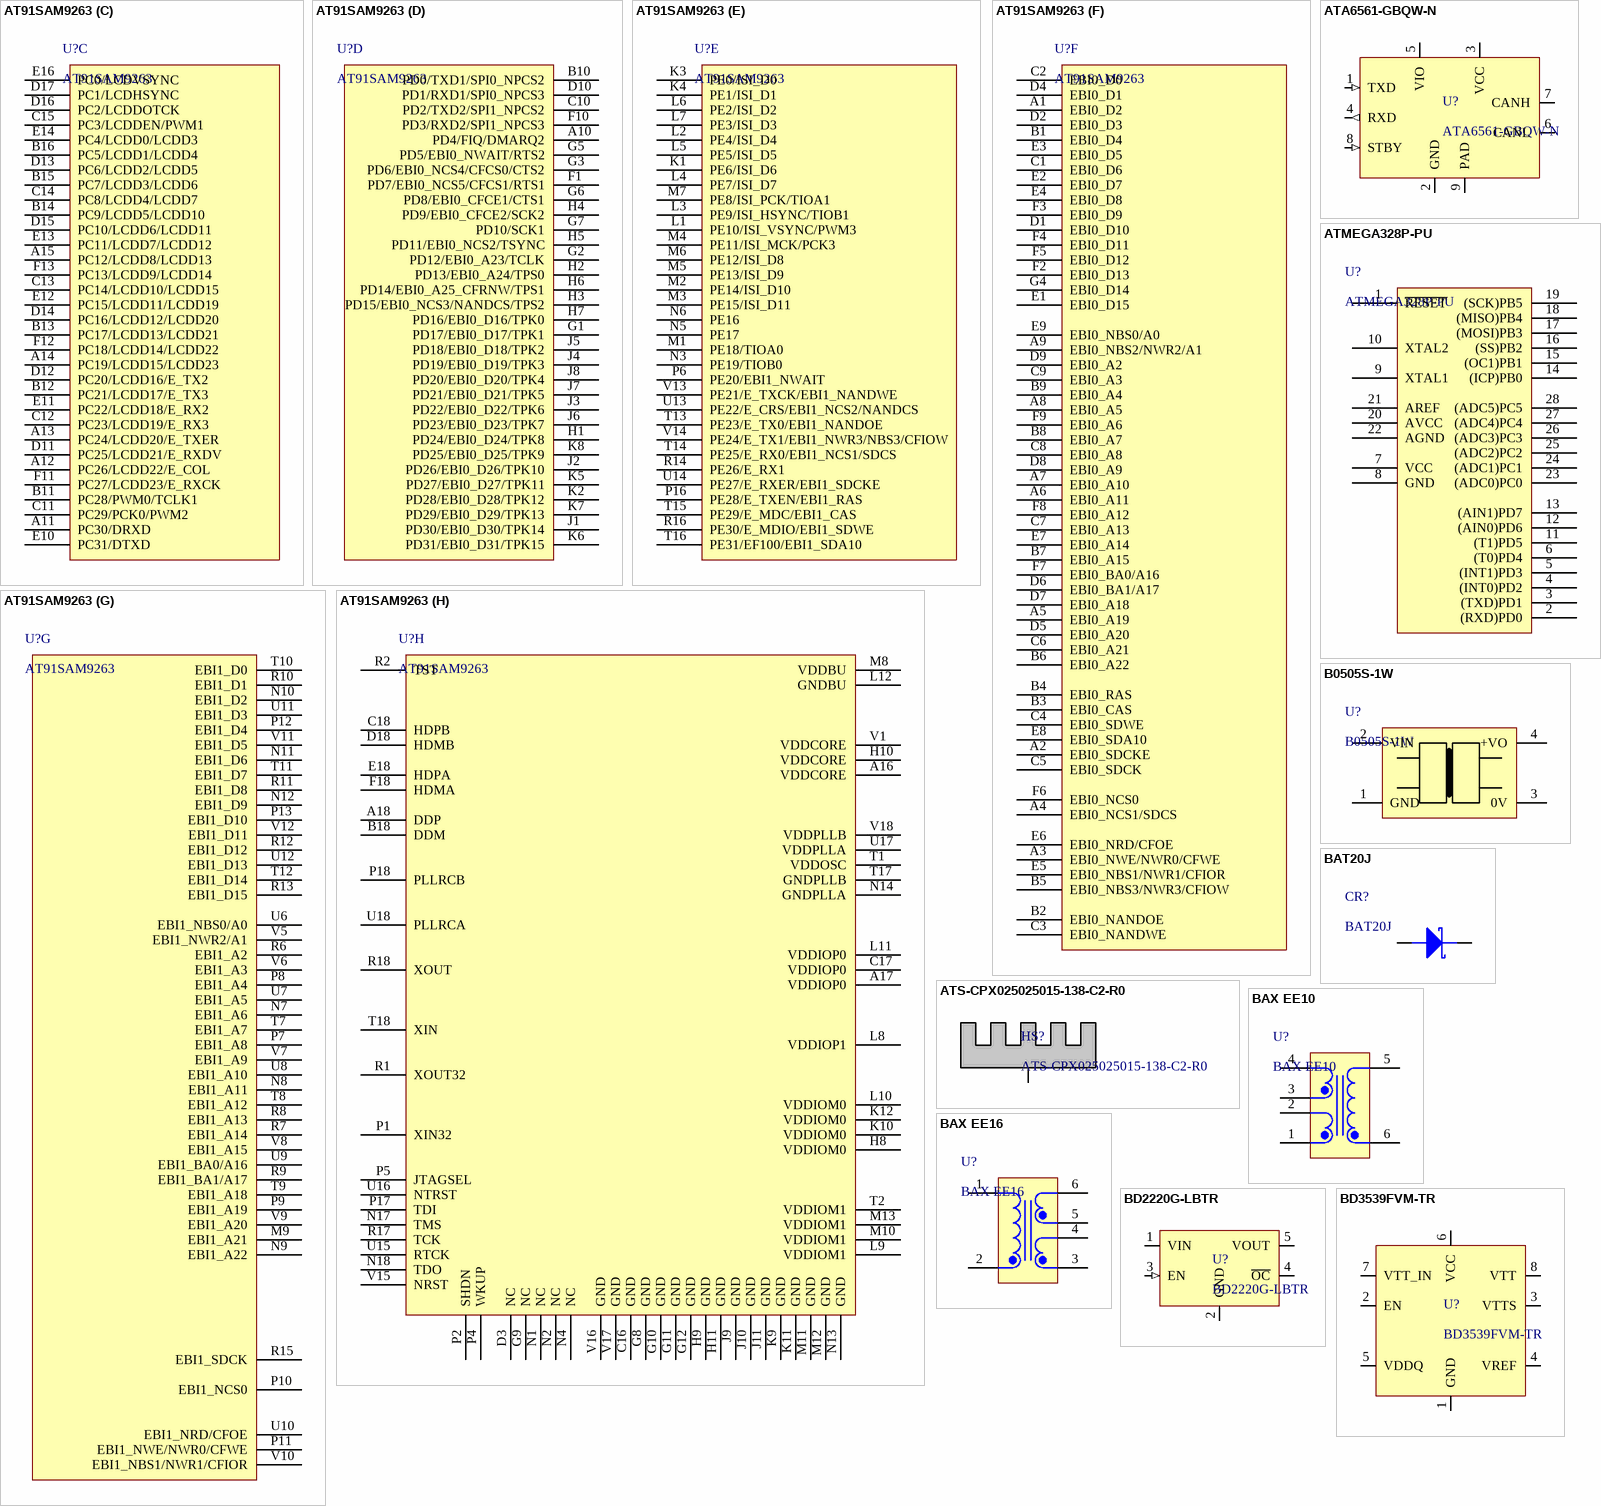
[diagram p7: symbols AT91SAM9263 to BD3539FVM-TR]

## AT91SAM9263
designator U?
footprint TFBGA 324-ball (BGA, 324-Leads, Body 15.0x15.0mm,  Pitch 0.80mm)
part A pins: K14 PA14/CANRX/IRQ0, K15 PA15/TCLK2/IRQ1, L13 PA13/CANTX/PCK0, L15 PA9/MCI1_DA1, L16 PA12/MCI0_CK, L17 PA10/MCI1_DA2, L18 PA11/MCI1_DA3, M14 PA6/MCI1_CK/PCK2, M15 PA4/MCI0_DA2/SPI0_NPCS2, M16 PA7/MCI1_CDA, M17 PA5/MCI0_DA3/SPI0_NPCS0, M18 PA8/MCI1_DA0, N15 PA1/MCI0_CDA/SPI0_MOSI, N16 PA0/MCI0_DA0/SPI0_MISO, P3 PA16/MCI0_CDB/EBI1_D16, P14 PA3/MCI0_DA1/SPI0_NPCS1, P15 PA2/SPI0_SPCK, R3 PA18/MCI0_DB1/EBI1_D18, R4 PA25/MCI1_DB3/EBI1_D25, R5 PA30/SCK0/EBI1_D30, T3 PA19/MCI0_DB2/EBI1_D19, T4 PA21/MCI1_CDB/EBI1_D21, T5 PA26/TXD0/EBI1_D26, T6 PA31/DMARQ0/EBI1_D31, U1 PA17/MCI0_DB0/EBI1_D17, U2 PA20/MCI0_DB3/EBI1_D20, U3 PA23/MCI1_DB1/EBI1_D23, U4 PA24/MCI1_DB2/EBI1_D24, U5 PA28/RTS0/EBI1_D28, V2 PA22/MCI1_DB0/EBI1_D22, V3 PA27/RXD0/EBI1_D27, V4 PA29/CTS0/EBI1_D29
part B pins: B17 PB16/SPI1_NPCS1/PCK, E15 PB30, E17 PB31, F14 PB26, F15 PB25, F16 PB29/PWM3, F17 PB27/PWM2, G13 PB21, G14 PB20, G15 PB23, G16 PB28/TCLK0, G17 PB22, G18 PB18/SPI1_NPCS3/TIOB2, H12 PB19, H13 PB17/SPI1_NPCS2/TIOA2, H14 PB15/SPI1_NPCS0, H15 PB13/SPI1_MOSI, H16 PB24/DMARQ3, H17 PB14/SPI1_SPCK, H18 PB12/SPI1_MISO, J12 PB11/RF1/SPI0_NPCS3, J13 PB9/RD1/LCDCC, J14 PB10/RK1/PCK1, J15 PB5/TWCK/RF0, J16 PB6/TF1/DMARQ1, J17 PB7/TK1/PWM0, J18 PB8/TD1/PWM1, K13 BMS_PB3/AC97RX/RD0, K16 PB1/AC97CK/TK0, K17 PB0/AC97FS/TF0, K18 PB2/AC97TX/TD0, L14 PB4/TWD/RK0
part C pins: A11 PC30/DRXD, A12 PC26/LCDD22/E_COL, A13 PC24/LCDD20/E_TXER, A14 PC19/LCDD15/LCDD23, A15 PC12/LCDD8/LCDD13, B11 PC28/PWM0/TCLK1, B12 PC21/LCDD17/E_TX3, B13 PC17/LCDD13/LCDD21, B14 PC9/LCDD5/LCDD10, B15 PC7/LCDD3/LCDD6, B16 PC5/LCDD1/LCDD4, C11 PC29/PCK0/PWM2, C12 PC23/LCDD19/E_RX3, C13 PC14/LCDD10/LCDD15, C14 PC8/LCDD4/LCDD7, C15 PC3/LCDDEN/PWM1, D11 PC25/LCDD21/E_RXDV, D12 PC20/LCDD16/E_TX2, D13 PC6/LCDD2/LCDD5, D14 PC16/LCDD12/LCDD20, D15 PC10/LCDD6/LCDD11, D16 PC2/LCDDOTCK, D17 PC1/LCDHSYNC, E10 PC31/DTXD, E11 PC22/LCDD18/E_RX2, E12 PC15/LCDD11/LCDD19, E13 PC11/LCDD7/LCDD12, E14 PC4/LCDD0/LCDD3, E16 PC0/LCDVSYNC, F11 PC27/LCDD23/E_RXCK, F12 PC18/LCDD14/LCDD22, F13 PC13/LCDD9/LCDD14
part D pins: A10 PD4/FIQ/DMARQ2, B10 PD0/TXD1/SPI0_NPCS2, C10 PD2/TXD2/SPI1_NPCS2, D10 PD1/RXD1/SPI0_NPCS3, F1 PD7/EBI0_NCS5/CFCS1/RTS1, F10 PD3/RXD2/SPI1_NPCS3, G1 PD17/EBI0_D17/TPK1, G2 PD12/EBI0_A23/TCLK, G3 PD6/EBI0_NCS4/CFCS0/CTS2, G5 PD5/EBI0_NWAIT/RTS2, G6 PD8/EBI0_CFCE1/CTS1, G7 PD10/SCK1, H1 PD24/EBI0_D24/TPK8, H2 PD13/EBI0_A24/TPS0, H3 PD15/EBI0_NCS3/NANDCS/TPS2, H4 PD9/EBI0_CFCE2/SCK2, H5 PD11/EBI0_NCS2/TSYNC, H6 PD14/EBI0_A25_CFRNW/TPS1, H7 PD16/EBI0_D16/TPK0, J1 PD30/EBI0_D30/TPK14, J2 PD26/EBI0_D26/TPK10, J3 PD22/EBI0_D22/TPK6, J4 PD19/EBI0_D19/TPK3, J5 PD18/EBI0_D18/TPK2, J6 PD23/EBI0_D23/TPK7, J7 PD21/EBI0_D21/TPK5, J8 PD20/EBI0_D20/TPK4, K2 PD28/EBI0_D28/TPK12, K5 PD27/EBI0_D27/TPK11, K6 PD31/EBI0_D31/TPK15, K7 PD29/EBI0_D29/TPK13, K8 PD25/EBI0_D25/TPK9
part E pins: K1 PE6/ISI_D6, K3 PE0/ISI_D0, K4 PE1/ISI_D1, L1 PE10/ISI_VSYNC/PWM3, L2 PE4/ISI_D4, L3 PE9/ISI_HSYNC/TIOB1, L4 PE7/ISI_D7, L5 PE5/ISI_D5, L6 PE2/ISI_D2, L7 PE3/ISI_D3, M1 PE18/TIOA0, M2 PE14/ISI_D10, M3 PE15/ISI_D11, M4 PE11/ISI_MCK/PCK3, M5 PE13/ISI_D9, M6 PE12/ISI_D8, M7 PE8/ISI_PCK/TIOA1, N3 PE19/TIOB0, N5 PE17, N6 PE16, P6 PE20/EBI1_NWAIT, P16 PE28/E_TXEN/EBI1_RAS, R14 PE26/E_RX1, R16 PE30/E_MDIO/EBI1_SDWE, T13 PE23/E_TX0/EBI1_NANDOE, T14 PE25/E_RX0/EBI1_NCS1/SDCS, T15 PE29/E_MDC/EBI1_CAS, T16 PE31/EF100/EBI1_SDA10, U13 PE22/E_CRS/EBI1_NCS2/NANDCS, U14 PE27/E_RXER/EBI1_SDCKE, V13 PE21/E_TXCK/EBI1_NANDWE, V14 PE24/E_TX1/EBI1_NWR3/NBS3/CFIOW
part F pins: A1 EBI0_D2, A2 EBI0_SDCKE, A3 EBI0_NWE/NWR0/CFWE, A4 EBI0_NCS1/SDCS, A5 EBI0_A19, A6 EBI0_A11, A7 EBI0_A10, A8 EBI0_A5, A9 EBI0_NBS2/NWR2/A1, B1 EBI0_D4, B2 EBI0_NANDOE, B3 EBI0_CAS, B4 EBI0_RAS, B5 EBI0_NBS3/NWR3/CFIOW, B6 EBI0_A22, B7 EBI0_A15, B8 EBI0_A7, B9 EBI0_A4, C1 EBI0_D6, C2 EBI0_D0, C3 EBI0_NANDWE, C4 EBI0_SDWE, C5 EBI0_SDCK, C6 EBI0_A21, C7 EBI0_A13, C8 EBI0_A8, C9 EBI0_A3, D1 EBI0_D10, D2 EBI0_D3, D4 EBI0_D1, D5 EBI0_A20, D6 EBI0_BA1/A17, D7 EBI0_A18, D8 EBI0_A9, D9 EBI0_A2, E1 EBI0_D15, E2 EBI0_D7, E3 EBI0_D5, E4 EBI0_D8, E5 EBI0_NBS1/NWR1/CFIOR, E6 EBI0_NRD/CFOE, E7 EBI0_A14, E8 EBI0_SDA10, E9 EBI0_NBS0/A0, F2 EBI0_D13, F3 EBI0_D9, F4 EBI0_D11, F5 EBI0_D12, F6 EBI0_NCS0, F7 EBI0_BA0/A16, F8 EBI0_A12, F9 EBI0_A6, G4 EBI0_D14
part G pins: M9 EBI1_A21, N7 EBI1_A6, N8 EBI1_A11, N9 EBI1_A22, N10 EBI1_D2, N11 EBI1_D6, N12 EBI1_D9, P7 EBI1_A8, P8 EBI1_A4, P9 EBI1_A19, P10 EBI1_NCS0, P11 EBI1_NWE/NWR0/CFWE, P12 EBI1_D4, P13 EBI1_D10, R6 EBI1_A2, R7 EBI1_A14, R8 EBI1_A13, R9 EBI1_BA1/A17, R10 EBI1_D1, R11 EBI1_D8, R12 EBI1_D12, R13 EBI1_D15, R15 EBI1_SDCK, T7 EBI1_A7, T8 EBI1_A12, T9 EBI1_A18, T10 EBI1_D0, T11 EBI1_D7, T12 EBI1_D14, U6 EBI1_NBS0/A0, U7 EBI1_A5, U8 EBI1_A10, U9 EBI1_BA0/A16, U10 EBI1_NRD/CFOE, U11 EBI1_D3, U12 EBI1_D13, V5 EBI1_NWR2/A1, V6 EBI1_A3, V7 EBI1_A9, V8 EBI1_A15, V9 EBI1_A20, V10 EBI1_NBS1/NWR1/CFIOR, V11 EBI1_D5, V12 EBI1_D11
part H pins: A16 VDDCORE, A17 VDDIOP0, A18 DDP, B18 DDM, C16 GND, C17 VDDIOP0, C18 HDPB, D3 NC, D18 HDMB, E18 HDPA, F18 HDMA, G8 GND, G9 NC, G10 GND, G11 GND, G12 GND, H8 VDDIOM0, H9 GND, H10 VDDCORE, H11 GND, J9 GND, J10 GND, J11 GND, K9 GND, K10 VDDIOM0, K11 GND, K12 VDDIOM0, L8 VDDIOP1, L9 VDDIOM1, L10 VDDIOM0, L11 VDDIOP0, L12 GNDBU, M8 VDDBU, M10 VDDIOM1, M11 GND, M12 GND, M13 VDDIOM1, N1 NC, N2 NC, N4 NC, N13 GND, N14 GNDPLLA, N17 TMS, N18 TDO, P1 XIN32, P2 SHDN, P4 WKUP, P5 JTAGSEL, P17 TDI, P18 PLLRCB, R1 XOUT32, R2 TST, R17 TCK, R18 XOUT, T1 VDDOSC, T2 VDDIOM1, T17 GNDPLLB, T18 XIN, U15 RTCK, U16 NTRST, U17 VDDPLLA, U18 PLLRCA, V1 VDDCORE, V15 NRST, V16 GND, V17 GND, V18 VDDPLLB

## ATA6561-GBQW-N
designator U?
CAN Interface IC High-Speed FD VDFN-8; Manufacturer: Microchip; Manufacturer Part Number: ATA6561-GBQW-N; Distributor Link: https://www.mouser.de/ProductDetail/Microchip-Technology/ATA6561-GBQW-N?qs=y6ZabgHbY%252BxuRHjTmdpZUA%3D%3D; LCSC: C617297
footprint VDFN-8
pins: 1 TXD (in), 2 GND (power), 3 VCC (power), 4 RXD (out), 5 VIO (power), 6 CANL (io), 7 CANH (io), 8 STBY (in), 9 PAD (power)

## ATMEGA328P-PU
designator U?
footprint DIP28 (28 PIN, W 300mil, Pin to pin 100mil)
pins: 1 ~{RESET}, 2 (RXD)PD0, 3 (TXD)PD1, 4 (INT0)PD2, 5 (INT1)PD3, 6 (T0)PD4, 7 VCC, 8 GND, 9 XTAL1, 10 XTAL2, 11 (T1)PD5, 12 (AIN0)PD6, 13 (AIN1)PD7, 14 (ICP)PB0, 15 (OC1)PB1, 16 (SS)PB2, 17 (MOSI)PB3, 18 (MISO)PB4, 19 (SCK)PB5, 20 AVCC, 21 AREF, 22 AGND, 23 (ADC0)PC0, 24 (ADC1)PC1, 25 (ADC2)PC2, 26 (ADC3)PC3, 27 (ADC4)PC4, 28 (ADC5)PC5

## ATS-CPX025025015-138-C2-R0
designator HS?
pushPIN™ Heat Sink 25x25x15mm; Manufacturer: ATS; Manufacturer Part Number: ATS-CPX025025015-138-C2-R0; Distributor Link: https://www.digikey.de/en/products/detail/advanced-thermal-solutions-inc/ATS-CPX025025015-138-C2-R0/4754010
footprint ATS-CPX025025015-138-C2-R0
pins: MH

## B0505S-1W
designator U?
footprint B0505S-1W
pins: 1 GND, 2 VIN, 3 0V, 4 +VO

## BAT20J
designator CR?
footprint SOD-323
pins: 1 A, 2 K

## BAX EE10
designator U?
footprint BAX EE10
pins: 1 Auxiliary, 2 Auxiliary, 3 Primary, 4 Primary, 5 Secondary, 6 Secondary

## BAX EE16
designator U?
footprint BAX EE16
pins: 1 TD+, 2 TD-, 3 TD-, 4 TD-, 5 TD-, 6 TD-

## BD2220G-LBTR
designator U?
High-Side USB Current Limited Power Distribution Switch 1A SMD; Manufacturer: ROHM Semiconductor; Manufacturer Part Number: BD2220G-LBTR
footprint SSOP5
pins: 1 VIN (power), 2 GND (power), 3 EN (in), 4 ~{OC}, 5 VOUT

## BD3539FVM-TR
designator U?
1.0V to 5.5V, 1A 1Ch Termination Regulator for DDR-SDRAMs; Manufacturer: ROHM Semiconductor; Manufacturer Part Number: BD3539FVM-TR
footprint MSOP8 (TSOP, 8-Leads, Body 2.90x2.80mm, Pitch 0.65mm, IPC Medium Density)
pins: 1 GND, 2 EN, 3 VTTS, 4 VREF, 5 VDDQ, 6 VCC, 7 VTT_IN, 8 VTT

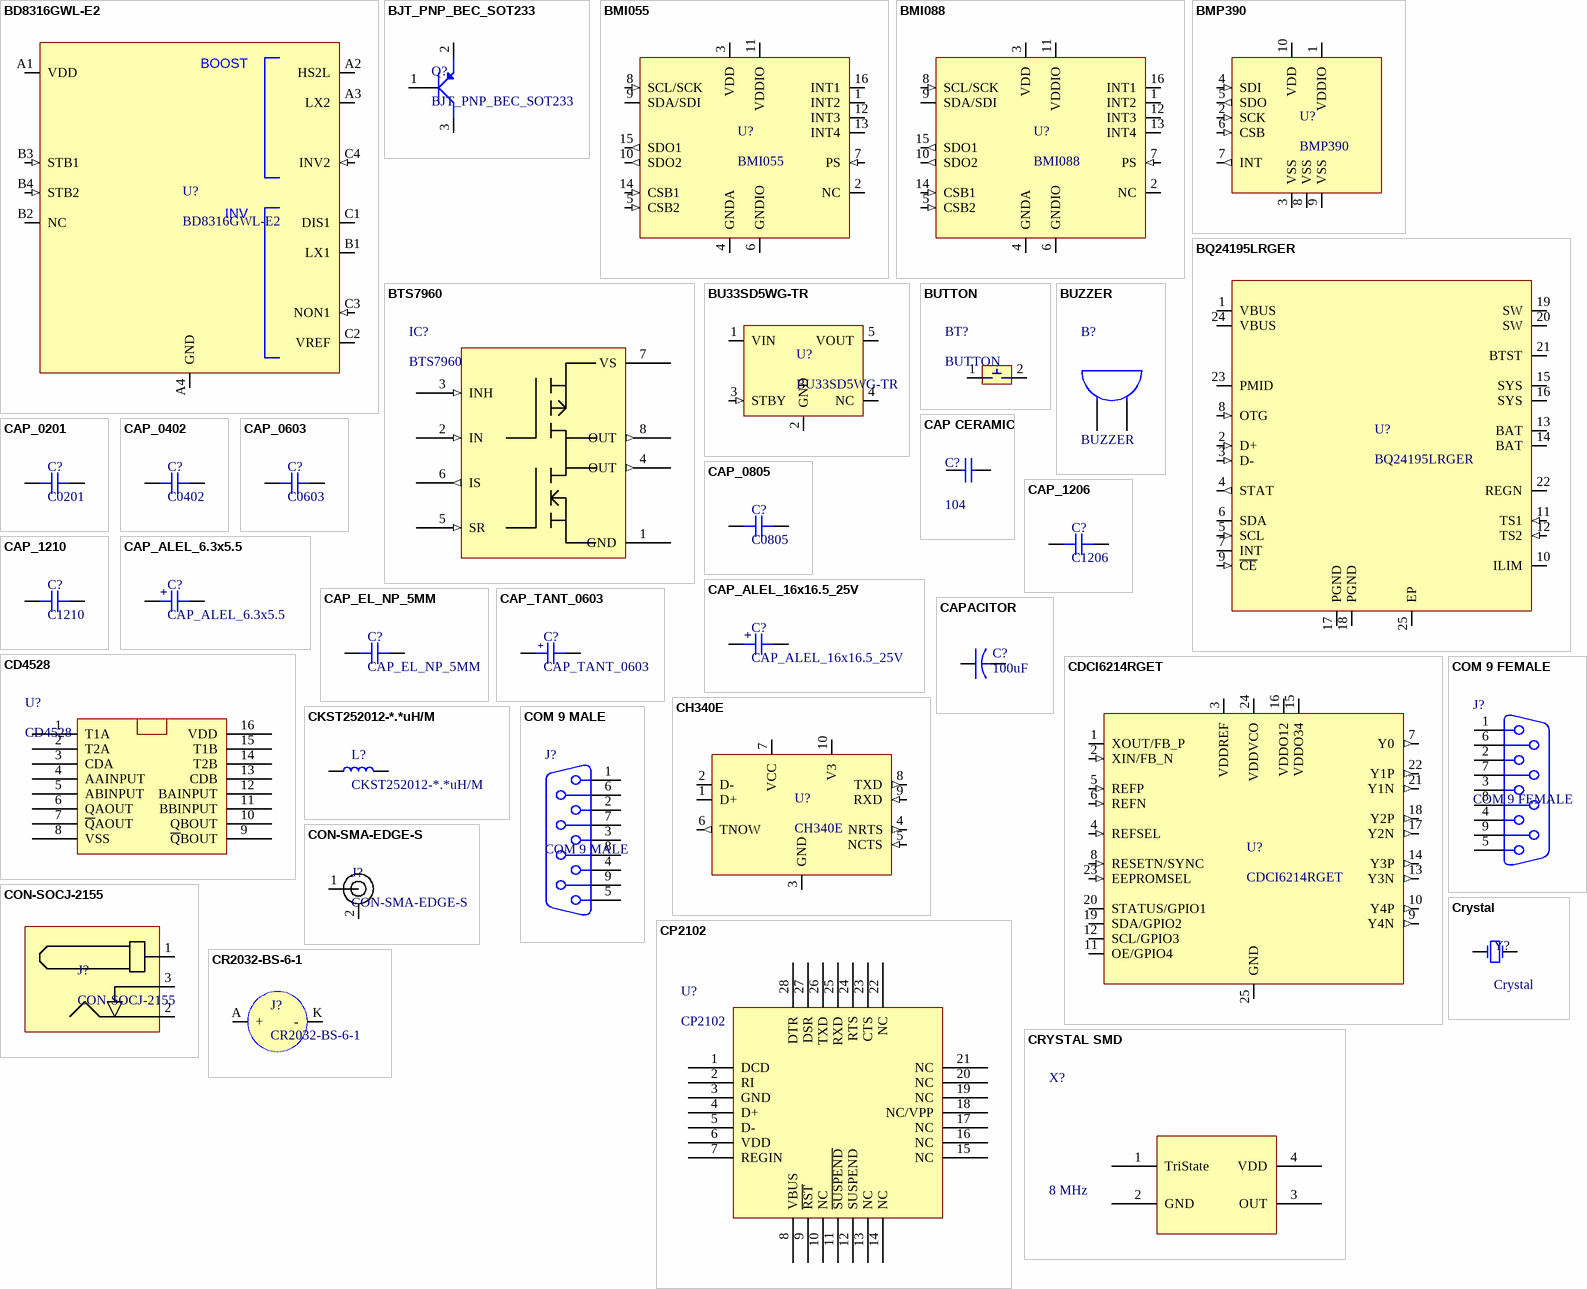
[diagram p8: symbols BD8316GWL-E2 to CRYSTAL SMD]

## BD8316GWL-E2
designator U?
Step-up and inverted 2-channel DC/DC converter with Built-in Power MOSFET 1.6MHz 1A; Manufacturer: ROHM; Manufacturer Part Number: BD8316GWL-E2; Distributor Link: https://www.mouser.de/ProductDetail/ROHM-Semiconductor/BD8316GWL-E2?qs=9Cg39qEKpi4sbGytSKsU5Q%3D%3D
footprint UCSP50L1
pins: A1 VDD (power), A2 HS2L (power), A3 LX2 (power), A4 GND (power), B1 LX1 (power), B2 NC, B3 STB1 (in), B4 STB2 (in), C1 DIS1 (power), C2 VREF (power), C3 NON1 (in), C4 INV2 (in)
text: BOOST; INV

## BJT_PNP_BEC_SOT233
designator Q?
Transistor BJT PNP SOT-23-3 Package Base=1 Emitter=2 Collector=3
footprint SOT-23-3
pins: 1 B, 2 E, 3 C

## BMI055
designator U?
Inertial Measurement Unit IMU 6-Axis LGA; Manufacturer: Bosch; Manufacturer Part Number: BMI055; LCSC: C189620
footprint BMI088
pins: 1 INT2 (io), 2 NC, 3 VDD (power), 4 GNDA (power), 5 CSB2 (in), 6 GNDIO (power), 7 PS (in), 8 SCL/SCK (in), 9 SDA/SDI (io), 10 SDO2 (out), 11 VDDIO (power), 12 INT3 (io), 13 INT4 (io), 14 CSB1 (in), 15 SDO1 (out), 16 INT1 (io)

## BMI088
designator U?
Inertial Measurement Unit IMU 6-Axis LGA; Manufacturer: Bosch; Manufacturer Part Number: BMI088
footprint BMI088
pins: 1 INT2 (io), 2 NC, 3 VDD (power), 4 GNDA (power), 5 CSB2 (in), 6 GNDIO (power), 7 PS (in), 8 SCL/SCK (in), 9 SDA/SDI (io), 10 SDO2 (out), 11 VDDIO (power), 12 INT3 (io), 13 INT4 (io), 14 CSB1 (in), 15 SDO1 (out), 16 INT1 (io)